# Altium integrated library Renesas Microprocessor SuperH.IntLib: 433 symbols (part 55 of 62)
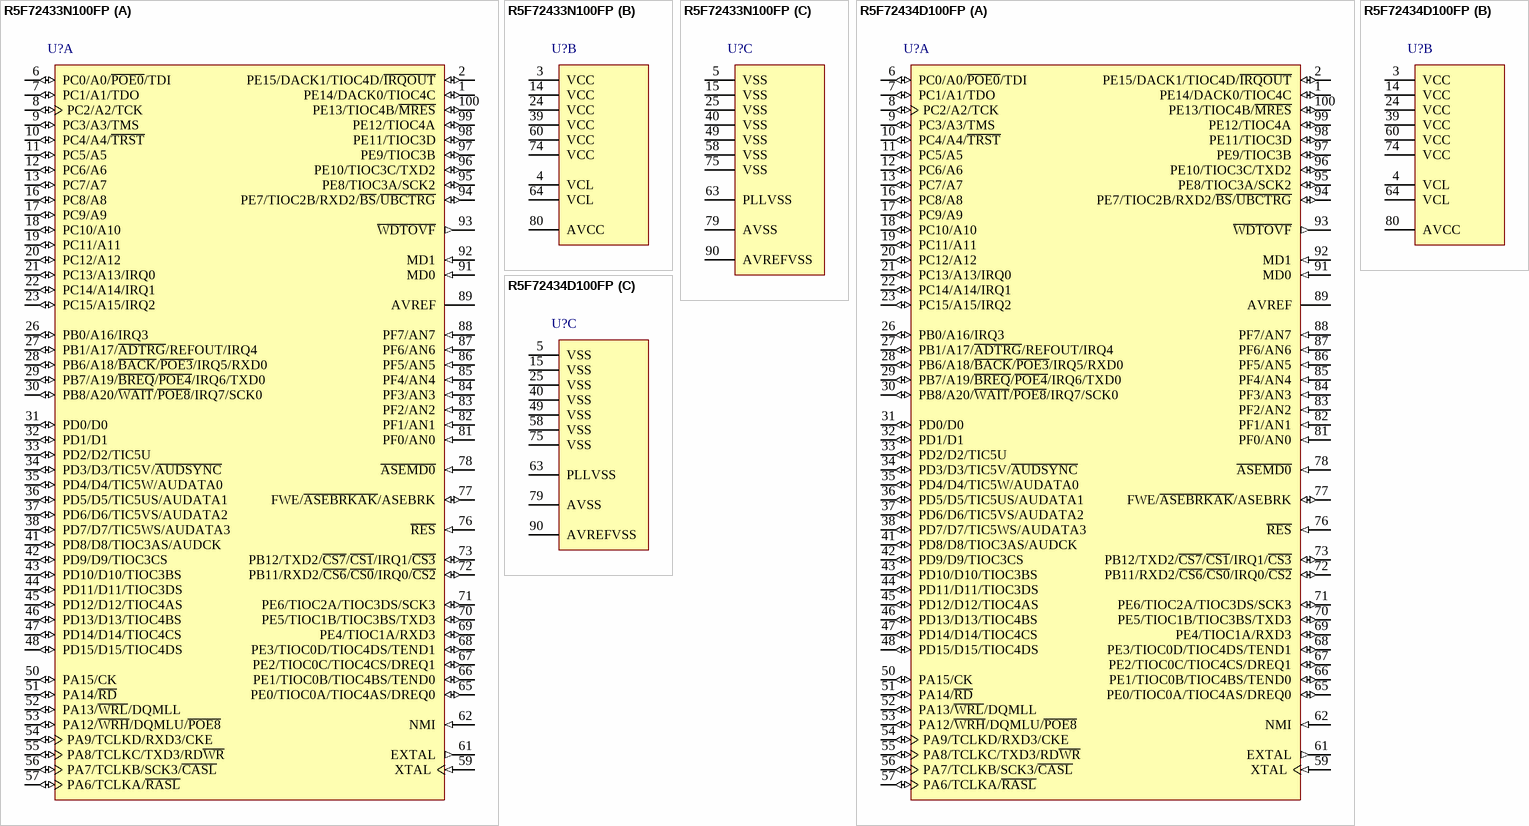
[diagram p313: symbols R5F72433N100FP to R5F72434D100FP]

## R5F72434D100FP
designator U?
32-Bit RISC Microcomputer, SH7243 Series, SH-2A core, 100MHz, 256K ROM, 12K RAM, 100-pin PLQFP, -40 to 85°C; Published: 28-Aug-2009; DatasheetVersion: Rev.1.00, Jun-2008; PackageVersion: Sep-2005; PackageReference: PLQP0100KB-A; Publisher: Altium Limited; PackageDescription: 100-Pin Plastic Low Profile QFP, 14 x 14 x 1.4 mm Body, 0.5 mm Pitch; Code_JEITA: P-LQFP100-14x14-0.50; Code_IPC: SQFP50P1600X1600-100; ComponentLink1Description: Manufacturer Link; ComponentLink1URL: http://www.renesas.com/fmwk.jsp?cnt=sh7243_root.jsp&fp=/products/mpumcu/superh_family/sh7243_series/sh7243_group/; ComponentLink2Description: Datasheet; ComponentLink2URL: http://documentation.renesas.com/eng/products/mpumcu/rej09b0393_sh7280hm.pdf; ComponentLink3Description: Packaging Specification; ComponentLink3URL: http://sg.renesas.com/media/products/common_info/package/pdf/ic/code/plqp0100kb_a.pdf
footprint PLQP0100KB-A_N (Shrink QFP, 100-Leads, Body 14x14mm, Pitch 0.5mm, IPC Medium Density)
footprint PLQP0100KB-A_L (Shrink QFP, 100-Leads, Body 14x14mm, Pitch 0.5mm, IPC High Density)
footprint PLQP0100KB-A_M (Shrink QFP, 100-Leads, Body 14x14mm, Pitch 0.5mm, IPC Low Density)
part A pins: 1 PE14/DACK0/TIOC4C (io), 2 PE15/DACK1/TIOC4D/~{IRQOUT} (io), 6 PC0/A0/~{POE0}/TDI (io), 7 PC1/A1/TDO (io), 8 PC2/A2/TCK (io), 9 PC3/A3/TMS (io), 10 PC4/A4/~{TRST} (io), 11 PC5/A5 (io), 12 PC6/A6 (io), 13 PC7/A7 (io), 16 PC8/A8 (io), 17 PC9/A9 (io), 18 PC10/A10 (io), 19 PC11/A11 (io), 20 PC12/A12 (io), 21 PC13/A13/IRQ0 (io), 22 PC14/A14/IRQ1 (io), 23 PC15/A15/IRQ2 (io), 26 PB0/A16/IRQ3 (io), 27 PB1/A17/~{ADTRG}/REFOUT/IRQ4 (io), 28 PB6/A18/~{BACK}/~{POE3}/IRQ5/RXD0 (io), 29 PB7/A19/~{BREQ}/~{POE4}/IRQ6/TXD0 (io), 30 PB8/A20/~{WAIT}/~{POE8}/IRQ7/SCK0 (io), 31 PD0/D0 (io), 32 PD1/D1 (io), 33 PD2/D2/TIC5U (io), 34 PD3/D3/TIC5V/~{AUDSYNC} (io), 35 PD4/D4/TIC5W/AUDATA0 (io), 36 PD5/D5/TIC5US/AUDATA1 (io), 37 PD6/D6/TIC5VS/AUDATA2 (io), 38 PD7/D7/TIC5WS/AUDATA3 (io), 41 PD8/D8/TIOC3AS/AUDCK (io), 42 PD9/D9/TIOC3CS (io), 43 PD10/D10/TIOC3BS (io), 44 PD11/D11/TIOC3DS (io), 45 PD12/D12/TIOC4AS (io), 46 PD13/D13/TIOC4BS (io), 47 PD14/D14/TIOC4CS (io), 48 PD15/D15/TIOC4DS (io), 50 PA15/CK (io), 51 PA14/~{RD} (io), 52 PA13/~{WRL}/DQMLL (io), 53 PA12/~{WRH}/DQMLU/~{POE8} (io), 54 PA9/TCLKD/RXD3/CKE (io), 55 PA8/TCLKC/TXD3/RD~{WR} (io), 56 PA7/TCLKB/SCK3/~{CASL} (io), 57 PA6/TCLKA/~{RASL} (io), 59 XTAL (in), 61 EXTAL (out), 62 NMI (in), 65 PE0/TIOC0A/TIOC4AS/DREQ0 (io), 66 PE1/TIOC0B/TIOC4BS/TEND0 (io), 67 PE2/TIOC0C/TIOC4CS/DREQ1 (io), 68 PE3/TIOC0D/TIOC4DS/TEND1 (io), 69 PE4/TIOC1A/RXD3 (io), 70 PE5/TIOC1B/TIOC3BS/TXD3 (io), 71 PE6/TIOC2A/TIOC3DS/SCK3 (io), 72 PB11/RXD2/~{CS6}/~{CS0}/IRQ0/~{CS2} (io), 73 PB12/TXD2/~{CS7}/~{CS1}/IRQ1/~{CS3} (io), 76 ~{RES} (in), 77 FWE/~{ASEBRKAK}/ASEBRK (io), 78 ~{ASEMD0} (in), 81 PF0/AN0 (in), 82 PF1/AN1 (in), 83 PF2/AN2 (in), 84 PF3/AN3 (in), 85 PF4/AN4 (in), 86 PF5/AN5 (in), 87 PF6/AN6 (in), 88 PF7/AN7 (in), 89 AVREF (power), 91 MD0 (in), 92 MD1 (in), 93 ~{WDTOVF} (out), 94 PE7/TIOC2B/RXD2/~{BS}/~{UBCTRG} (io), 95 PE8/TIOC3A/SCK2 (io), 96 PE10/TIOC3C/TXD2 (io), 97 PE9/TIOC3B (io), 98 PE11/TIOC3D (io), 99 PE12/TIOC4A (io), 100 PE13/TIOC4B/~{MRES} (io)
part B pins: 3 VCC (power), 4 VCL (power), 14 VCC (power), 24 VCC (power), 39 VCC (power), 60 VCC (power), 64 VCL (power), 74 VCC (power), 80 AVCC (power)
part C pins: 5 VSS (power), 15 VSS (power), 25 VSS (power), 40 VSS (power), 49 VSS (power), 58 VSS (power), 63 PLLVSS (power), 75 VSS (power), 79 AVSS (power), 90 AVREFVSS (power)

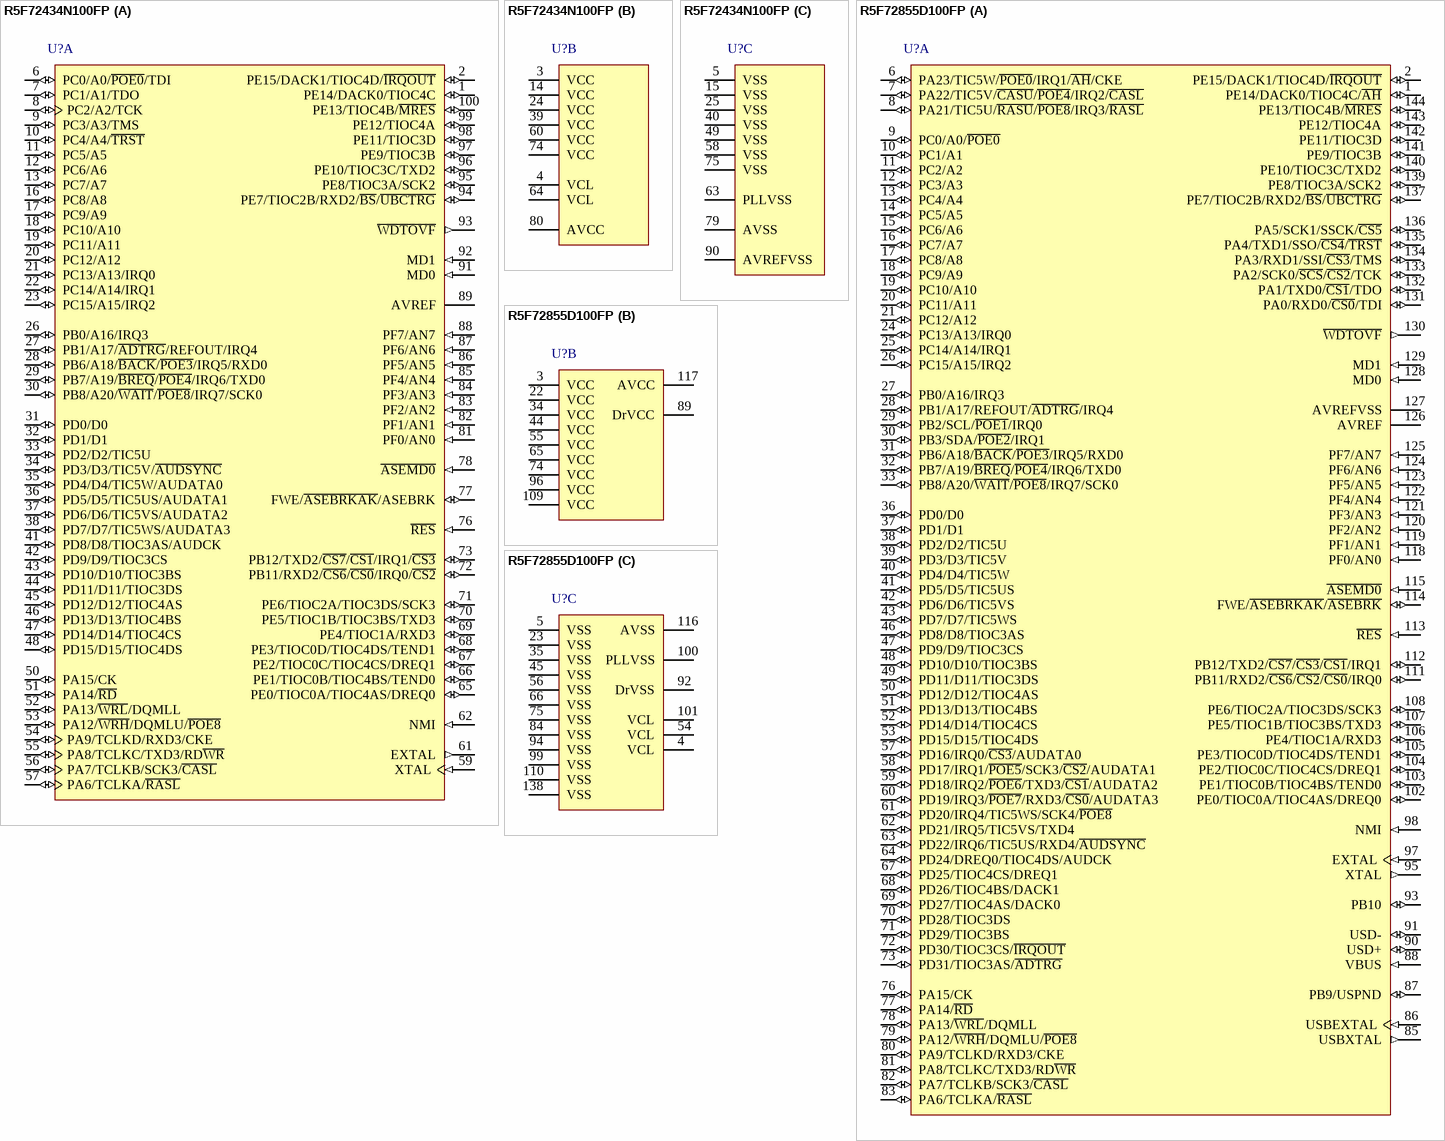
[diagram p184: symbols R5F72434N100FP to R5F72855D100FP]

## R5F72434N100FP
designator U?
32-Bit RISC Microcomputer, SH7243 Series, SH-2A core, 100MHz, 256K ROM, 12K RAM, 100-pin PLQFP, -20 to 85°C; Published: 28-Aug-2009; DatasheetVersion: Rev.1.00, Jun-2008; PackageVersion: Sep-2005; PackageReference: PLQP0100KB-A; Publisher: Altium Limited; PackageDescription: 100-Pin Plastic Low Profile QFP, 14 x 14 x 1.4 mm Body, 0.5 mm Pitch; Code_JEITA: P-LQFP100-14x14-0.50; Code_IPC: SQFP50P1600X1600-100; ComponentLink1Description: Manufacturer Link; ComponentLink1URL: http://www.renesas.com/fmwk.jsp?cnt=sh7243_root.jsp&fp=/products/mpumcu/superh_family/sh7243_series/sh7243_group/; ComponentLink2Description: Datasheet; ComponentLink2URL: http://documentation.renesas.com/eng/products/mpumcu/rej09b0393_sh7280hm.pdf; ComponentLink3Description: Packaging Specification; ComponentLink3URL: http://sg.renesas.com/media/products/common_info/package/pdf/ic/code/plqp0100kb_a.pdf
footprint PLQP0100KB-A_N (Shrink QFP, 100-Leads, Body 14x14mm, Pitch 0.5mm, IPC Medium Density)
footprint PLQP0100KB-A_L (Shrink QFP, 100-Leads, Body 14x14mm, Pitch 0.5mm, IPC High Density)
footprint PLQP0100KB-A_M (Shrink QFP, 100-Leads, Body 14x14mm, Pitch 0.5mm, IPC Low Density)
part A pins: 1 PE14/DACK0/TIOC4C (io), 2 PE15/DACK1/TIOC4D/~{IRQOUT} (io), 6 PC0/A0/~{POE0}/TDI (io), 7 PC1/A1/TDO (io), 8 PC2/A2/TCK (io), 9 PC3/A3/TMS (io), 10 PC4/A4/~{TRST} (io), 11 PC5/A5 (io), 12 PC6/A6 (io), 13 PC7/A7 (io), 16 PC8/A8 (io), 17 PC9/A9 (io), 18 PC10/A10 (io), 19 PC11/A11 (io), 20 PC12/A12 (io), 21 PC13/A13/IRQ0 (io), 22 PC14/A14/IRQ1 (io), 23 PC15/A15/IRQ2 (io), 26 PB0/A16/IRQ3 (io), 27 PB1/A17/~{ADTRG}/REFOUT/IRQ4 (io), 28 PB6/A18/~{BACK}/~{POE3}/IRQ5/RXD0 (io), 29 PB7/A19/~{BREQ}/~{POE4}/IRQ6/TXD0 (io), 30 PB8/A20/~{WAIT}/~{POE8}/IRQ7/SCK0 (io), 31 PD0/D0 (io), 32 PD1/D1 (io), 33 PD2/D2/TIC5U (io), 34 PD3/D3/TIC5V/~{AUDSYNC} (io), 35 PD4/D4/TIC5W/AUDATA0 (io), 36 PD5/D5/TIC5US/AUDATA1 (io), 37 PD6/D6/TIC5VS/AUDATA2 (io), 38 PD7/D7/TIC5WS/AUDATA3 (io), 41 PD8/D8/TIOC3AS/AUDCK (io), 42 PD9/D9/TIOC3CS (io), 43 PD10/D10/TIOC3BS (io), 44 PD11/D11/TIOC3DS (io), 45 PD12/D12/TIOC4AS (io), 46 PD13/D13/TIOC4BS (io), 47 PD14/D14/TIOC4CS (io), 48 PD15/D15/TIOC4DS (io), 50 PA15/CK (io), 51 PA14/~{RD} (io), 52 PA13/~{WRL}/DQMLL (io), 53 PA12/~{WRH}/DQMLU/~{POE8} (io), 54 PA9/TCLKD/RXD3/CKE (io), 55 PA8/TCLKC/TXD3/RD~{WR} (io), 56 PA7/TCLKB/SCK3/~{CASL} (io), 57 PA6/TCLKA/~{RASL} (io), 59 XTAL (in), 61 EXTAL (out), 62 NMI (in), 65 PE0/TIOC0A/TIOC4AS/DREQ0 (io), 66 PE1/TIOC0B/TIOC4BS/TEND0 (io), 67 PE2/TIOC0C/TIOC4CS/DREQ1 (io), 68 PE3/TIOC0D/TIOC4DS/TEND1 (io), 69 PE4/TIOC1A/RXD3 (io), 70 PE5/TIOC1B/TIOC3BS/TXD3 (io), 71 PE6/TIOC2A/TIOC3DS/SCK3 (io), 72 PB11/RXD2/~{CS6}/~{CS0}/IRQ0/~{CS2} (io), 73 PB12/TXD2/~{CS7}/~{CS1}/IRQ1/~{CS3} (io), 76 ~{RES} (in), 77 FWE/~{ASEBRKAK}/ASEBRK (io), 78 ~{ASEMD0} (in), 81 PF0/AN0 (in), 82 PF1/AN1 (in), 83 PF2/AN2 (in), 84 PF3/AN3 (in), 85 PF4/AN4 (in), 86 PF5/AN5 (in), 87 PF6/AN6 (in), 88 PF7/AN7 (in), 89 AVREF (power), 91 MD0 (in), 92 MD1 (in), 93 ~{WDTOVF} (out), 94 PE7/TIOC2B/RXD2/~{BS}/~{UBCTRG} (io), 95 PE8/TIOC3A/SCK2 (io), 96 PE10/TIOC3C/TXD2 (io), 97 PE9/TIOC3B (io), 98 PE11/TIOC3D (io), 99 PE12/TIOC4A (io), 100 PE13/TIOC4B/~{MRES} (io)
part B pins: 3 VCC (power), 4 VCL (power), 14 VCC (power), 24 VCC (power), 39 VCC (power), 60 VCC (power), 64 VCL (power), 74 VCC (power), 80 AVCC (power)
part C pins: 5 VSS (power), 15 VSS (power), 25 VSS (power), 40 VSS (power), 49 VSS (power), 58 VSS (power), 63 PLLVSS (power), 75 VSS (power), 79 AVSS (power), 90 AVREFVSS (power)

## R5F72855D100FP
designator U?
32-Bit RISC Microcomputer, SH7280 Series, SH-2A core, 100MHz, 512K ROM, 24K RAM, 144-pin PLQFP, -40 to 85°C; Published: 28-Aug-2009; DatasheetVersion: Rev.1.00, Jun-2008; PackageVersion: Sep-2005; PackageReference: PLQP0144KA-A; Publisher: Altium Limited; PackageDescription: 144-Pin Plastic Low Profile QFP, 20 x 20 x 1.4 mm Body, 0.5 mm Pitch; Code_JEITA: P-LQFP144-20x20-0.50; Code_IPC: SQFP50P2200X2200-144; ComponentLink1Description: Manufacturer Link; ComponentLink1URL: http://www.renesas.com/fmwk.jsp?cnt=sh7285_root.jsp&fp=/products/mpumcu/superh_family/sh7280_series/sh7285_group/; ComponentLink2Description: Datasheet; ComponentLink2URL: http://documentation.renesas.com/eng/products/mpumcu/rej09b0393_sh7280hm.pdf; ComponentLink3Description: Packaging Specification; ComponentLink3URL: http://sg.renesas.com/media/products/common_info/package/pdf/ic/code/plqp0144ka_a.pdf
footprint PLQP0144KA-A_N (Shrink QFP, 144-Leads, Body 20x20mm, Pitch 0.5mm, IPC Medium Density)
footprint PLQP0144KA-A_L (Shrink QFP, 144-Leads, Body 20x20mm, Pitch 0.5mm, IPC High Density)
footprint PLQP0144KA-A_M (Shrink QFP, 144-Leads, Body 20x20mm, Pitch 0.5mm, IPC Low Density)
part A pins: 1 PE14/DACK0/TIOC4C/~{AH} (io), 2 PE15/DACK1/TIOC4D/~{IRQOUT} (io), 6 PA23/TIC5W/~{POE0}/IRQ1/~{AH}/CKE (io), 7 PA22/TIC5V/~{CASU}/~{POE4}/IRQ2/~{CASL} (io), 8 PA21/TIC5U/~{RASU}/~{POE8}/IRQ3/~{RASL} (io), 9 PC0/A0/~{POE0} (io), 10 PC1/A1 (io), 11 PC2/A2 (io), 12 PC3/A3 (io), 13 PC4/A4 (io), 14 PC5/A5 (io), 15 PC6/A6 (io), 16 PC7/A7 (io), 17 PC8/A8 (io), 18 PC9/A9 (io), 19 PC10/A10 (io), 20 PC11/A11 (io), 21 PC12/A12 (io), 24 PC13/A13/IRQ0 (io), 25 PC14/A14/IRQ1 (io), 26 PC15/A15/IRQ2 (io), 27 PB0/A16/IRQ3 (io), 28 PB1/A17/REFOUT/~{ADTRG}/IRQ4 (io), 29 PB2/SCL/~{POE1}/IRQ0 (io), 30 PB3/SDA/~{POE2}/IRQ1 (io), 31 PB6/A18/~{BACK}/~{POE3}/IRQ5/RXD0 (io), 32 PB7/A19/~{BREQ}/~{POE4}/IRQ6/TXD0 (io), 33 PB8/A20/~{WAIT}/~{POE8}/IRQ7/SCK0 (io), 36 PD0/D0 (io), 37 PD1/D1 (io), 38 PD2/D2/TIC5U (io), 39 PD3/D3/TIC5V (io), 40 PD4/D4/TIC5W (io), 41 PD5/D5/TIC5US (io), 42 PD6/D6/TIC5VS (io), 43 PD7/D7/TIC5WS (io), 46 PD8/D8/TIOC3AS (io), 47 PD9/D9/TIOC3CS (io), 48 PD10/D10/TIOC3BS (io), 49 PD11/D11/TIOC3DS (io), 50 PD12/D12/TIOC4AS (io), 51 PD13/D13/TIOC4BS (io), 52 PD14/D14/TIOC4CS (io), 53 PD15/D15/TIOC4DS (io), 57 PD16/IRQ0/~{CS3}/AUDATA0 (io), 58 PD17/IRQ1/~{POE5}/SCK3/~{CS2}/AUDATA1 (io), 59 PD18/IRQ2/~{POE6}/TXD3/~{CS1}/AUDATA2 (io), 60 PD19/IRQ3/~{POE7}/RXD3/~{CS0}/AUDATA3 (io), 61 PD20/IRQ4/TIC5WS/SCK4/~{POE8} (io), 62 PD21/IRQ5/TIC5VS/TXD4 (io), 63 PD22/IRQ6/TIC5US/RXD4/~{AUDSYNC} (io), 64 PD24/DREQ0/TIOC4DS/AUDCK (io), 67 PD25/TIOC4CS/DREQ1 (io), 68 PD26/TIOC4BS/DACK1 (io), 69 PD27/TIOC4AS/DACK0 (io), 70 PD28/TIOC3DS (io), 71 PD29/TIOC3BS (io), 72 PD30/TIOC3CS/~{IRQOUT} (io), 73 PD31/TIOC3AS/~{ADTRG} (io), 76 PA15/CK (io), 77 PA14/~{RD} (io), 78 PA13/~{WRL}/DQMLL (io), 79 PA12/~{WRH}/DQMLU/~{POE8} (io), 80 PA9/TCLKD/RXD3/CKE (io), 81 PA8/TCLKC/TXD3/RD~{WR} (io), 82 PA7/TCLKB/SCK3/~{CASL} (io), 83 PA6/TCLKA/~{RASL} (io), 85 USBXTAL (out), 86 USBEXTAL (in), 87 PB9/USPND (io), 88 VBUS (in), 90 USD+ (io), 91 USD- (io), 93 PB10 (io), 95 XTAL (out), 97 EXTAL (in), 98 NMI (in), 102 PE0/TIOC0A/TIOC4AS/DREQ0 (io), 103 PE1/TIOC0B/TIOC4BS/TEND0 (io), 104 PE2/TIOC0C/TIOC4CS/DREQ1 (io), 105 PE3/TIOC0D/TIOC4DS/TEND1 (io), 106 PE4/TIOC1A/RXD3 (io), 107 PE5/TIOC1B/TIOC3BS/TXD3 (io), 108 PE6/TIOC2A/TIOC3DS/SCK3 (io), 111 PB11/RXD2/~{CS6}/~{CS2}/~{CS0}/IRQ0 (io), 112 PB12/TXD2/~{CS7}/~{CS3}/~{CS1}/IRQ1 (io), 113 ~{RES} (in), 114 FWE/~{ASEBRKAK}/~{ASEBRK} (io), 115 ~{ASEMD0} (in), 118 PF0/AN0 (in), 119 PF1/AN1 (in), 120 PF2/AN2 (in), 121 PF3/AN3 (in), 122 PF4/AN4 (in), 123 PF5/AN5 (in), 124 PF6/AN6 (in), 125 PF7/AN7 (in), 126 AVREF, 127 AVREFVSS, 128 MD0 (in), 129 MD1 (in), 130 ~{WDTOVF} (out), 131 PA0/RXD0/~{CS0}/TDI (io), 132 PA1/TXD0/~{CS1}/TDO (io), 133 PA2/SCK0/~{SCS}/~{CS2}/TCK (io), 134 PA3/RXD1/SSI/~{CS3}/TMS (io), 135 PA4/TXD1/SSO/~{CS4}/~{TRST} (io), 136 PA5/SCK1/SSCK/~{CS5} (io), 137 PE7/TIOC2B/RXD2/~{BS}/~{UBCTRG} (io), 139 PE8/TIOC3A/SCK2 (io), 140 PE10/TIOC3C/TXD2 (io), 141 PE9/TIOC3B (io), 142 PE11/TIOC3D (io), 143 PE12/TIOC4A (io), 144 PE13/TIOC4B/~{MRES} (io)
part B pins: 3 VCC, 22 VCC, 34 VCC, 44 VCC, 55 VCC, 65 VCC, 74 VCC, 89 DrVCC, 96 VCC, 109 VCC, 117 AVCC
part C pins: 4 VCL, 5 VSS, 23 VSS, 35 VSS, 45 VSS, 54 VCL, 56 VSS, 66 VSS, 75 VSS, 84 VSS, 92 DrVSS, 94 VSS, 99 VSS, 100 PLLVSS, 101 VCL, 110 VSS, 116 AVSS, 138 VSS

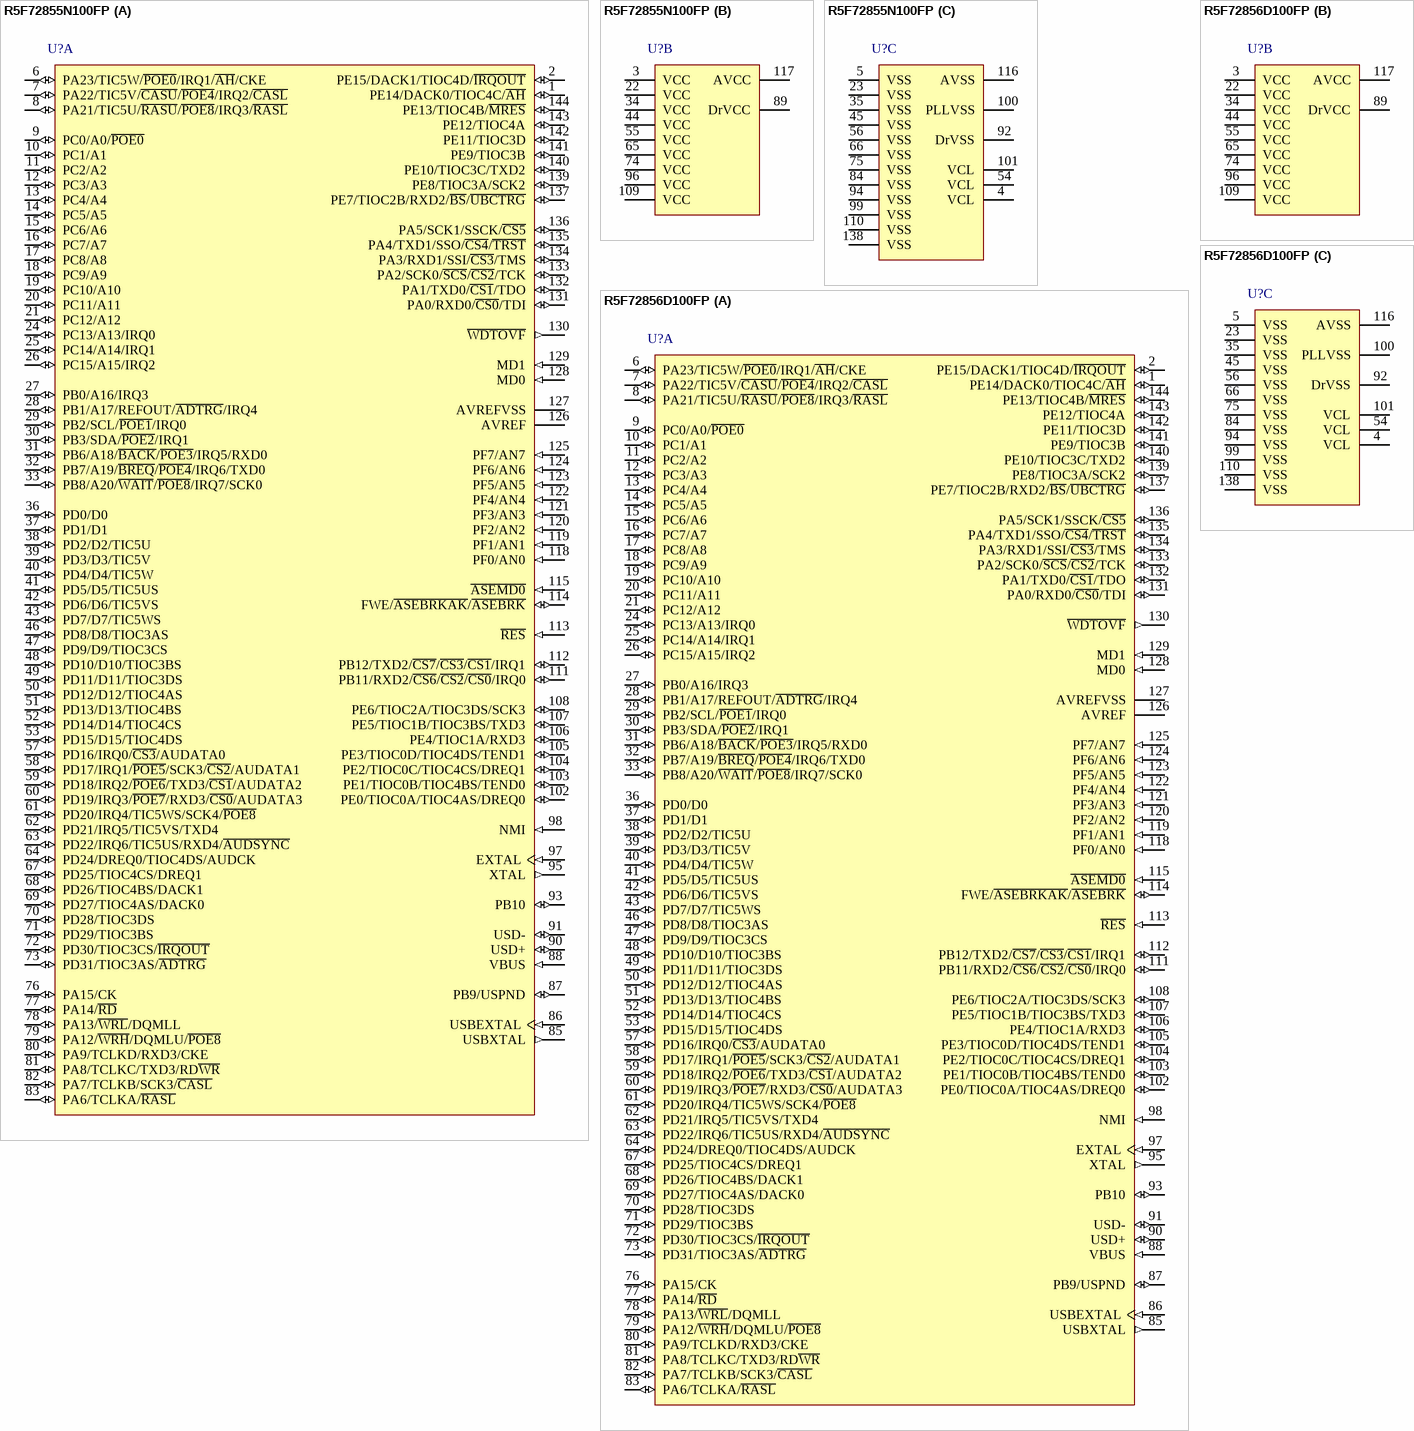
[diagram p185: symbols R5F72855N100FP to R5F72856D100FP]

## R5F72855N100FP
designator U?
32-Bit RISC Microcomputer, SH7280 Series, SH-2A core, 100MHz, 512K ROM, 24K RAM, 144-pin PLQFP, -20 to 85°C; Published: 28-Aug-2009; DatasheetVersion: Rev.1.00, Jun-2008; PackageVersion: Sep-2005; PackageReference: PLQP0144KA-A; Publisher: Altium Limited; PackageDescription: 144-Pin Plastic Low Profile QFP, 20 x 20 x 1.4 mm Body, 0.5 mm Pitch; Code_JEITA: P-LQFP144-20x20-0.50; Code_IPC: SQFP50P2200X2200-144; ComponentLink1Description: Manufacturer Link; ComponentLink1URL: http://www.renesas.com/fmwk.jsp?cnt=sh7285_root.jsp&fp=/products/mpumcu/superh_family/sh7280_series/sh7285_group/; ComponentLink2Description: Datasheet; ComponentLink2URL: http://documentation.renesas.com/eng/products/mpumcu/rej09b0393_sh7280hm.pdf; ComponentLink3Description: Packaging Specification; ComponentLink3URL: http://sg.renesas.com/media/products/common_info/package/pdf/ic/code/plqp0144ka_a.pdf
footprint PLQP0144KA-A_N (Shrink QFP, 144-Leads, Body 20x20mm, Pitch 0.5mm, IPC Medium Density)
footprint PLQP0144KA-A_L (Shrink QFP, 144-Leads, Body 20x20mm, Pitch 0.5mm, IPC High Density)
footprint PLQP0144KA-A_M (Shrink QFP, 144-Leads, Body 20x20mm, Pitch 0.5mm, IPC Low Density)
part A pins: 1 PE14/DACK0/TIOC4C/~{AH} (io), 2 PE15/DACK1/TIOC4D/~{IRQOUT} (io), 6 PA23/TIC5W/~{POE0}/IRQ1/~{AH}/CKE (io), 7 PA22/TIC5V/~{CASU}/~{POE4}/IRQ2/~{CASL} (io), 8 PA21/TIC5U/~{RASU}/~{POE8}/IRQ3/~{RASL} (io), 9 PC0/A0/~{POE0} (io), 10 PC1/A1 (io), 11 PC2/A2 (io), 12 PC3/A3 (io), 13 PC4/A4 (io), 14 PC5/A5 (io), 15 PC6/A6 (io), 16 PC7/A7 (io), 17 PC8/A8 (io), 18 PC9/A9 (io), 19 PC10/A10 (io), 20 PC11/A11 (io), 21 PC12/A12 (io), 24 PC13/A13/IRQ0 (io), 25 PC14/A14/IRQ1 (io), 26 PC15/A15/IRQ2 (io), 27 PB0/A16/IRQ3 (io), 28 PB1/A17/REFOUT/~{ADTRG}/IRQ4 (io), 29 PB2/SCL/~{POE1}/IRQ0 (io), 30 PB3/SDA/~{POE2}/IRQ1 (io), 31 PB6/A18/~{BACK}/~{POE3}/IRQ5/RXD0 (io), 32 PB7/A19/~{BREQ}/~{POE4}/IRQ6/TXD0 (io), 33 PB8/A20/~{WAIT}/~{POE8}/IRQ7/SCK0 (io), 36 PD0/D0 (io), 37 PD1/D1 (io), 38 PD2/D2/TIC5U (io), 39 PD3/D3/TIC5V (io), 40 PD4/D4/TIC5W (io), 41 PD5/D5/TIC5US (io), 42 PD6/D6/TIC5VS (io), 43 PD7/D7/TIC5WS (io), 46 PD8/D8/TIOC3AS (io), 47 PD9/D9/TIOC3CS (io), 48 PD10/D10/TIOC3BS (io), 49 PD11/D11/TIOC3DS (io), 50 PD12/D12/TIOC4AS (io), 51 PD13/D13/TIOC4BS (io), 52 PD14/D14/TIOC4CS (io), 53 PD15/D15/TIOC4DS (io), 57 PD16/IRQ0/~{CS3}/AUDATA0 (io), 58 PD17/IRQ1/~{POE5}/SCK3/~{CS2}/AUDATA1 (io), 59 PD18/IRQ2/~{POE6}/TXD3/~{CS1}/AUDATA2 (io), 60 PD19/IRQ3/~{POE7}/RXD3/~{CS0}/AUDATA3 (io), 61 PD20/IRQ4/TIC5WS/SCK4/~{POE8} (io), 62 PD21/IRQ5/TIC5VS/TXD4 (io), 63 PD22/IRQ6/TIC5US/RXD4/~{AUDSYNC} (io), 64 PD24/DREQ0/TIOC4DS/AUDCK (io), 67 PD25/TIOC4CS/DREQ1 (io), 68 PD26/TIOC4BS/DACK1 (io), 69 PD27/TIOC4AS/DACK0 (io), 70 PD28/TIOC3DS (io), 71 PD29/TIOC3BS (io), 72 PD30/TIOC3CS/~{IRQOUT} (io), 73 PD31/TIOC3AS/~{ADTRG} (io), 76 PA15/CK (io), 77 PA14/~{RD} (io), 78 PA13/~{WRL}/DQMLL (io), 79 PA12/~{WRH}/DQMLU/~{POE8} (io), 80 PA9/TCLKD/RXD3/CKE (io), 81 PA8/TCLKC/TXD3/RD~{WR} (io), 82 PA7/TCLKB/SCK3/~{CASL} (io), 83 PA6/TCLKA/~{RASL} (io), 85 USBXTAL (out), 86 USBEXTAL (in), 87 PB9/USPND (io), 88 VBUS (in), 90 USD+ (io), 91 USD- (io), 93 PB10 (io), 95 XTAL (out), 97 EXTAL (in), 98 NMI (in), 102 PE0/TIOC0A/TIOC4AS/DREQ0 (io), 103 PE1/TIOC0B/TIOC4BS/TEND0 (io), 104 PE2/TIOC0C/TIOC4CS/DREQ1 (io), 105 PE3/TIOC0D/TIOC4DS/TEND1 (io), 106 PE4/TIOC1A/RXD3 (io), 107 PE5/TIOC1B/TIOC3BS/TXD3 (io), 108 PE6/TIOC2A/TIOC3DS/SCK3 (io), 111 PB11/RXD2/~{CS6}/~{CS2}/~{CS0}/IRQ0 (io), 112 PB12/TXD2/~{CS7}/~{CS3}/~{CS1}/IRQ1 (io), 113 ~{RES} (in), 114 FWE/~{ASEBRKAK}/~{ASEBRK} (io), 115 ~{ASEMD0} (in), 118 PF0/AN0 (in), 119 PF1/AN1 (in), 120 PF2/AN2 (in), 121 PF3/AN3 (in), 122 PF4/AN4 (in), 123 PF5/AN5 (in), 124 PF6/AN6 (in), 125 PF7/AN7 (in), 126 AVREF, 127 AVREFVSS, 128 MD0 (in), 129 MD1 (in), 130 ~{WDTOVF} (out), 131 PA0/RXD0/~{CS0}/TDI (io), 132 PA1/TXD0/~{CS1}/TDO (io), 133 PA2/SCK0/~{SCS}/~{CS2}/TCK (io), 134 PA3/RXD1/SSI/~{CS3}/TMS (io), 135 PA4/TXD1/SSO/~{CS4}/~{TRST} (io), 136 PA5/SCK1/SSCK/~{CS5} (io), 137 PE7/TIOC2B/RXD2/~{BS}/~{UBCTRG} (io), 139 PE8/TIOC3A/SCK2 (io), 140 PE10/TIOC3C/TXD2 (io), 141 PE9/TIOC3B (io), 142 PE11/TIOC3D (io), 143 PE12/TIOC4A (io), 144 PE13/TIOC4B/~{MRES} (io)
part B pins: 3 VCC, 22 VCC, 34 VCC, 44 VCC, 55 VCC, 65 VCC, 74 VCC, 89 DrVCC, 96 VCC, 109 VCC, 117 AVCC
part C pins: 4 VCL, 5 VSS, 23 VSS, 35 VSS, 45 VSS, 54 VCL, 56 VSS, 66 VSS, 75 VSS, 84 VSS, 92 DrVSS, 94 VSS, 99 VSS, 100 PLLVSS, 101 VCL, 110 VSS, 116 AVSS, 138 VSS

## R5F72856D100FP
designator U?
32-Bit RISC Microcomputer, SH7280 Series, SH-2A core, 100MHz, 768K ROM, 32K RAM, 144-pin PLQFP, -40 to 85°C; Published: 28-Aug-2009; DatasheetVersion: Rev.1.00, Jun-2008; PackageVersion: Sep-2005; PackageReference: PLQP0144KA-A; Publisher: Altium Limited; PackageDescription: 144-Pin Plastic Low Profile QFP, 20 x 20 x 1.4 mm Body, 0.5 mm Pitch; Code_JEITA: P-LQFP144-20x20-0.50; Code_IPC: SQFP50P2200X2200-144; ComponentLink1Description: Manufacturer Link; ComponentLink1URL: http://www.renesas.com/fmwk.jsp?cnt=sh7285_root.jsp&fp=/products/mpumcu/superh_family/sh7280_series/sh7285_group/; ComponentLink2Description: Datasheet; ComponentLink2URL: http://documentation.renesas.com/eng/products/mpumcu/rej09b0393_sh7280hm.pdf; ComponentLink3Description: Packaging Specification; ComponentLink3URL: http://sg.renesas.com/media/products/common_info/package/pdf/ic/code/plqp0144ka_a.pdf
footprint PLQP0144KA-A_N (Shrink QFP, 144-Leads, Body 20x20mm, Pitch 0.5mm, IPC Medium Density)
footprint PLQP0144KA-A_L (Shrink QFP, 144-Leads, Body 20x20mm, Pitch 0.5mm, IPC High Density)
footprint PLQP0144KA-A_M (Shrink QFP, 144-Leads, Body 20x20mm, Pitch 0.5mm, IPC Low Density)
part A pins: 1 PE14/DACK0/TIOC4C/~{AH} (io), 2 PE15/DACK1/TIOC4D/~{IRQOUT} (io), 6 PA23/TIC5W/~{POE0}/IRQ1/~{AH}/CKE (io), 7 PA22/TIC5V/~{CASU}/~{POE4}/IRQ2/~{CASL} (io), 8 PA21/TIC5U/~{RASU}/~{POE8}/IRQ3/~{RASL} (io), 9 PC0/A0/~{POE0} (io), 10 PC1/A1 (io), 11 PC2/A2 (io), 12 PC3/A3 (io), 13 PC4/A4 (io), 14 PC5/A5 (io), 15 PC6/A6 (io), 16 PC7/A7 (io), 17 PC8/A8 (io), 18 PC9/A9 (io), 19 PC10/A10 (io), 20 PC11/A11 (io), 21 PC12/A12 (io), 24 PC13/A13/IRQ0 (io), 25 PC14/A14/IRQ1 (io), 26 PC15/A15/IRQ2 (io), 27 PB0/A16/IRQ3 (io), 28 PB1/A17/REFOUT/~{ADTRG}/IRQ4 (io), 29 PB2/SCL/~{POE1}/IRQ0 (io), 30 PB3/SDA/~{POE2}/IRQ1 (io), 31 PB6/A18/~{BACK}/~{POE3}/IRQ5/RXD0 (io), 32 PB7/A19/~{BREQ}/~{POE4}/IRQ6/TXD0 (io), 33 PB8/A20/~{WAIT}/~{POE8}/IRQ7/SCK0 (io), 36 PD0/D0 (io), 37 PD1/D1 (io), 38 PD2/D2/TIC5U (io), 39 PD3/D3/TIC5V (io), 40 PD4/D4/TIC5W (io), 41 PD5/D5/TIC5US (io), 42 PD6/D6/TIC5VS (io), 43 PD7/D7/TIC5WS (io), 46 PD8/D8/TIOC3AS (io), 47 PD9/D9/TIOC3CS (io), 48 PD10/D10/TIOC3BS (io), 49 PD11/D11/TIOC3DS (io), 50 PD12/D12/TIOC4AS (io), 51 PD13/D13/TIOC4BS (io), 52 PD14/D14/TIOC4CS (io), 53 PD15/D15/TIOC4DS (io), 57 PD16/IRQ0/~{CS3}/AUDATA0 (io), 58 PD17/IRQ1/~{POE5}/SCK3/~{CS2}/AUDATA1 (io), 59 PD18/IRQ2/~{POE6}/TXD3/~{CS1}/AUDATA2 (io), 60 PD19/IRQ3/~{POE7}/RXD3/~{CS0}/AUDATA3 (io), 61 PD20/IRQ4/TIC5WS/SCK4/~{POE8} (io), 62 PD21/IRQ5/TIC5VS/TXD4 (io), 63 PD22/IRQ6/TIC5US/RXD4/~{AUDSYNC} (io), 64 PD24/DREQ0/TIOC4DS/AUDCK (io), 67 PD25/TIOC4CS/DREQ1 (io), 68 PD26/TIOC4BS/DACK1 (io), 69 PD27/TIOC4AS/DACK0 (io), 70 PD28/TIOC3DS (io), 71 PD29/TIOC3BS (io), 72 PD30/TIOC3CS/~{IRQOUT} (io), 73 PD31/TIOC3AS/~{ADTRG} (io), 76 PA15/CK (io), 77 PA14/~{RD} (io), 78 PA13/~{WRL}/DQMLL (io), 79 PA12/~{WRH}/DQMLU/~{POE8} (io), 80 PA9/TCLKD/RXD3/CKE (io), 81 PA8/TCLKC/TXD3/RD~{WR} (io), 82 PA7/TCLKB/SCK3/~{CASL} (io), 83 PA6/TCLKA/~{RASL} (io), 85 USBXTAL (out), 86 USBEXTAL (in), 87 PB9/USPND (io), 88 VBUS (in), 90 USD+ (io), 91 USD- (io), 93 PB10 (io), 95 XTAL (out), 97 EXTAL (in), 98 NMI (in), 102 PE0/TIOC0A/TIOC4AS/DREQ0 (io), 103 PE1/TIOC0B/TIOC4BS/TEND0 (io), 104 PE2/TIOC0C/TIOC4CS/DREQ1 (io), 105 PE3/TIOC0D/TIOC4DS/TEND1 (io), 106 PE4/TIOC1A/RXD3 (io), 107 PE5/TIOC1B/TIOC3BS/TXD3 (io), 108 PE6/TIOC2A/TIOC3DS/SCK3 (io), 111 PB11/RXD2/~{CS6}/~{CS2}/~{CS0}/IRQ0 (io), 112 PB12/TXD2/~{CS7}/~{CS3}/~{CS1}/IRQ1 (io), 113 ~{RES} (in), 114 FWE/~{ASEBRKAK}/~{ASEBRK} (io), 115 ~{ASEMD0} (in), 118 PF0/AN0 (in), 119 PF1/AN1 (in), 120 PF2/AN2 (in), 121 PF3/AN3 (in), 122 PF4/AN4 (in), 123 PF5/AN5 (in), 124 PF6/AN6 (in), 125 PF7/AN7 (in), 126 AVREF, 127 AVREFVSS, 128 MD0 (in), 129 MD1 (in), 130 ~{WDTOVF} (out), 131 PA0/RXD0/~{CS0}/TDI (io), 132 PA1/TXD0/~{CS1}/TDO (io), 133 PA2/SCK0/~{SCS}/~{CS2}/TCK (io), 134 PA3/RXD1/SSI/~{CS3}/TMS (io), 135 PA4/TXD1/SSO/~{CS4}/~{TRST} (io), 136 PA5/SCK1/SSCK/~{CS5} (io), 137 PE7/TIOC2B/RXD2/~{BS}/~{UBCTRG} (io), 139 PE8/TIOC3A/SCK2 (io), 140 PE10/TIOC3C/TXD2 (io), 141 PE9/TIOC3B (io), 142 PE11/TIOC3D (io), 143 PE12/TIOC4A (io), 144 PE13/TIOC4B/~{MRES} (io)
part B pins: 3 VCC, 22 VCC, 34 VCC, 44 VCC, 55 VCC, 65 VCC, 74 VCC, 89 DrVCC, 96 VCC, 109 VCC, 117 AVCC
part C pins: 4 VCL, 5 VSS, 23 VSS, 35 VSS, 45 VSS, 54 VCL, 56 VSS, 66 VSS, 75 VSS, 84 VSS, 92 DrVSS, 94 VSS, 99 VSS, 100 PLLVSS, 101 VCL, 110 VSS, 116 AVSS, 138 VSS

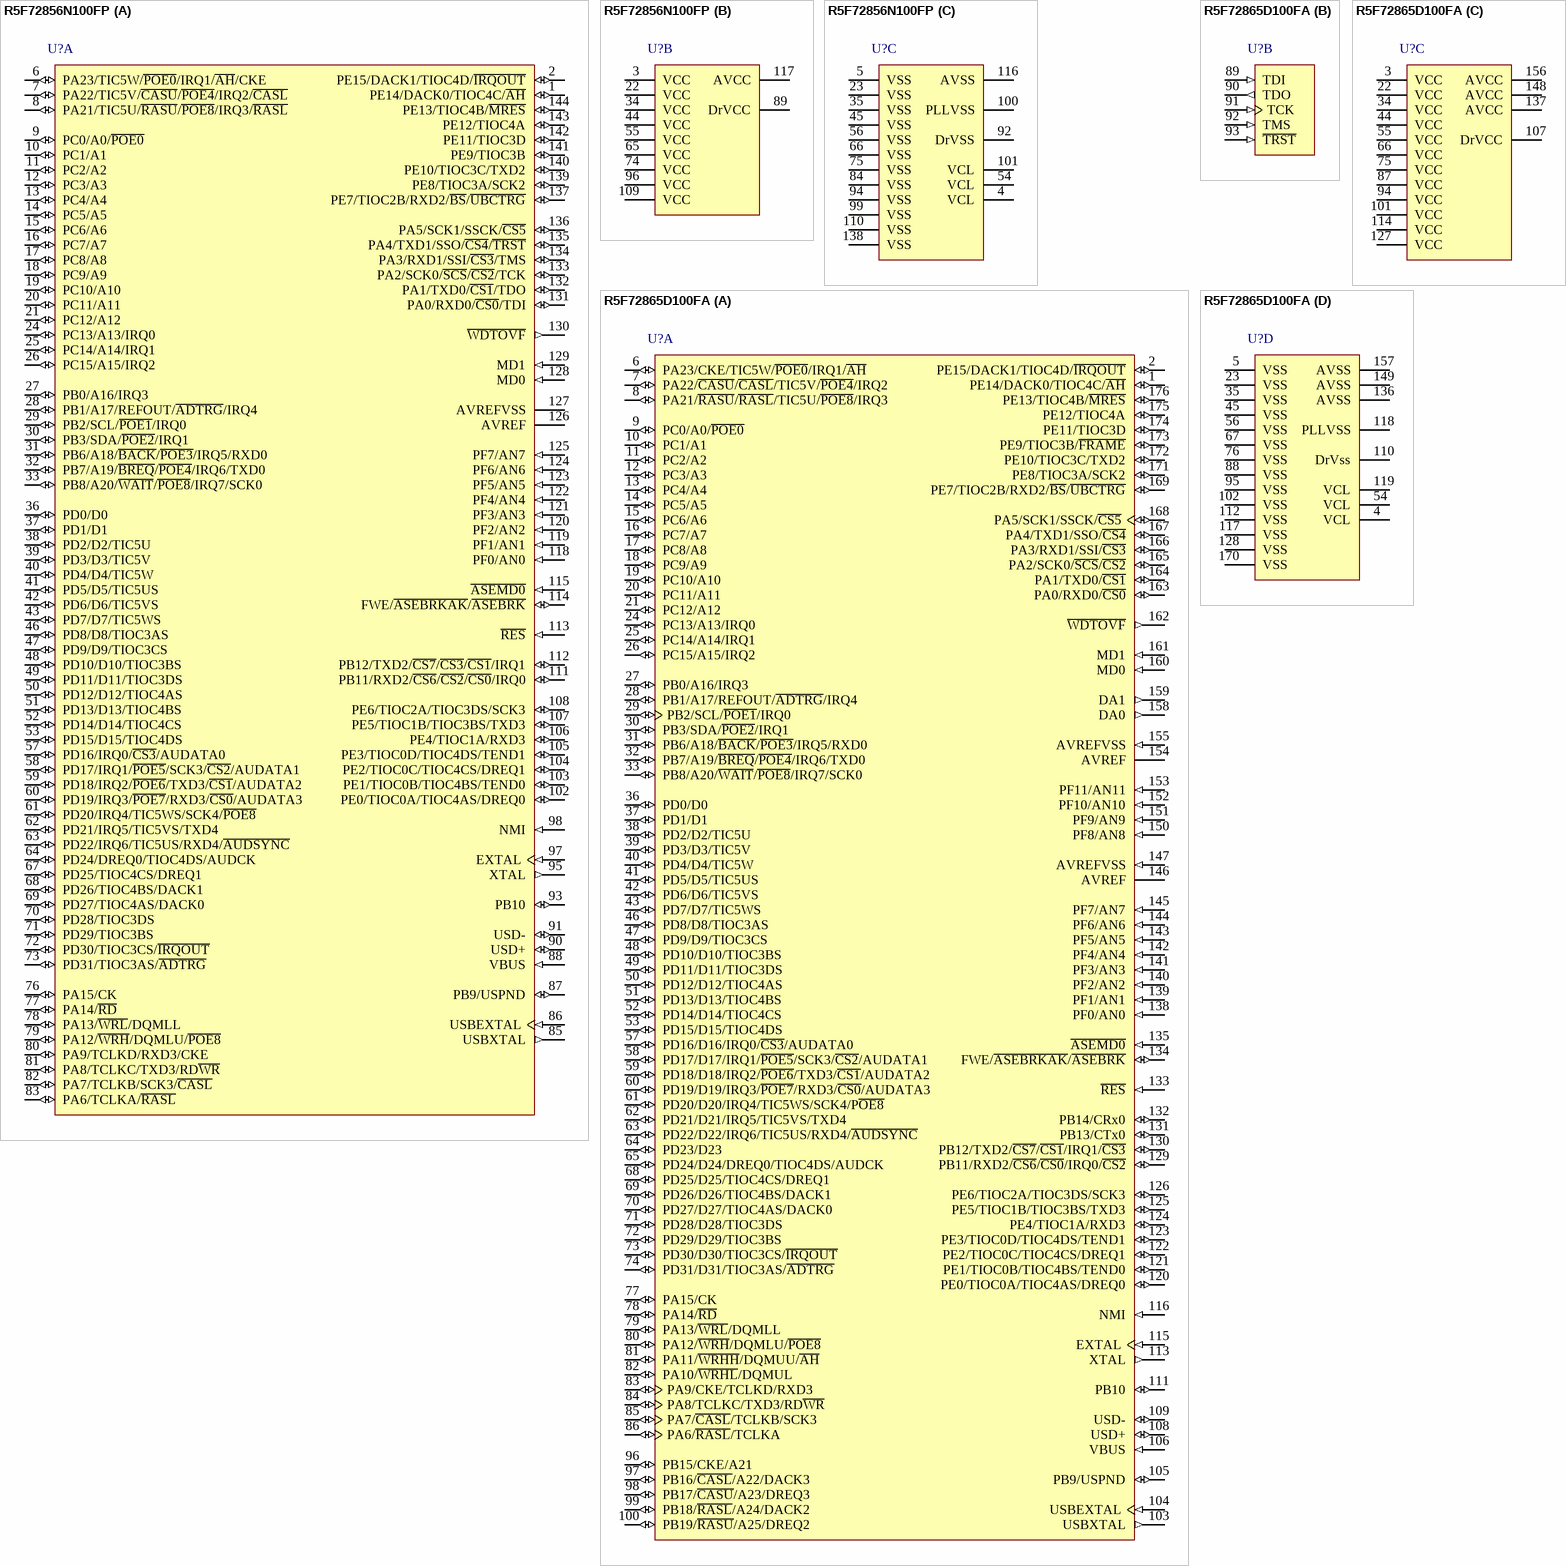
[diagram p186: symbols R5F72856N100FP to R5F72865D100FA]

## R5F72856N100FP
designator U?
32-Bit RISC Microcomputer, SH7280 Series, SH-2A core, 100MHz, 768K ROM, 32K RAM, 144-pin PLQFP, -20 to 85°C; Published: 28-Aug-2009; DatasheetVersion: Rev.1.00, Jun-2008; PackageVersion: Sep-2005; PackageReference: PLQP0144KA-A; Publisher: Altium Limited; PackageDescription: 144-Pin Plastic Low Profile QFP, 20 x 20 x 1.4 mm Body, 0.5 mm Pitch; Code_JEITA: P-LQFP144-20x20-0.50; Code_IPC: SQFP50P2200X2200-144; ComponentLink1Description: Manufacturer Link; ComponentLink1URL: http://www.renesas.com/fmwk.jsp?cnt=sh7285_root.jsp&fp=/products/mpumcu/superh_family/sh7280_series/sh7285_group/; ComponentLink2Description: Datasheet; ComponentLink2URL: http://documentation.renesas.com/eng/products/mpumcu/rej09b0393_sh7280hm.pdf; ComponentLink3Description: Packaging Specification; ComponentLink3URL: http://sg.renesas.com/media/products/common_info/package/pdf/ic/code/plqp0144ka_a.pdf
footprint PLQP0144KA-A_N (Shrink QFP, 144-Leads, Body 20x20mm, Pitch 0.5mm, IPC Medium Density)
footprint PLQP0144KA-A_L (Shrink QFP, 144-Leads, Body 20x20mm, Pitch 0.5mm, IPC High Density)
footprint PLQP0144KA-A_M (Shrink QFP, 144-Leads, Body 20x20mm, Pitch 0.5mm, IPC Low Density)
part A pins: 1 PE14/DACK0/TIOC4C/~{AH} (io), 2 PE15/DACK1/TIOC4D/~{IRQOUT} (io), 6 PA23/TIC5W/~{POE0}/IRQ1/~{AH}/CKE (io), 7 PA22/TIC5V/~{CASU}/~{POE4}/IRQ2/~{CASL} (io), 8 PA21/TIC5U/~{RASU}/~{POE8}/IRQ3/~{RASL} (io), 9 PC0/A0/~{POE0} (io), 10 PC1/A1 (io), 11 PC2/A2 (io), 12 PC3/A3 (io), 13 PC4/A4 (io), 14 PC5/A5 (io), 15 PC6/A6 (io), 16 PC7/A7 (io), 17 PC8/A8 (io), 18 PC9/A9 (io), 19 PC10/A10 (io), 20 PC11/A11 (io), 21 PC12/A12 (io), 24 PC13/A13/IRQ0 (io), 25 PC14/A14/IRQ1 (io), 26 PC15/A15/IRQ2 (io), 27 PB0/A16/IRQ3 (io), 28 PB1/A17/REFOUT/~{ADTRG}/IRQ4 (io), 29 PB2/SCL/~{POE1}/IRQ0 (io), 30 PB3/SDA/~{POE2}/IRQ1 (io), 31 PB6/A18/~{BACK}/~{POE3}/IRQ5/RXD0 (io), 32 PB7/A19/~{BREQ}/~{POE4}/IRQ6/TXD0 (io), 33 PB8/A20/~{WAIT}/~{POE8}/IRQ7/SCK0 (io), 36 PD0/D0 (io), 37 PD1/D1 (io), 38 PD2/D2/TIC5U (io), 39 PD3/D3/TIC5V (io), 40 PD4/D4/TIC5W (io), 41 PD5/D5/TIC5US (io), 42 PD6/D6/TIC5VS (io), 43 PD7/D7/TIC5WS (io), 46 PD8/D8/TIOC3AS (io), 47 PD9/D9/TIOC3CS (io), 48 PD10/D10/TIOC3BS (io), 49 PD11/D11/TIOC3DS (io), 50 PD12/D12/TIOC4AS (io), 51 PD13/D13/TIOC4BS (io), 52 PD14/D14/TIOC4CS (io), 53 PD15/D15/TIOC4DS (io), 57 PD16/IRQ0/~{CS3}/AUDATA0 (io), 58 PD17/IRQ1/~{POE5}/SCK3/~{CS2}/AUDATA1 (io), 59 PD18/IRQ2/~{POE6}/TXD3/~{CS1}/AUDATA2 (io), 60 PD19/IRQ3/~{POE7}/RXD3/~{CS0}/AUDATA3 (io), 61 PD20/IRQ4/TIC5WS/SCK4/~{POE8} (io), 62 PD21/IRQ5/TIC5VS/TXD4 (io), 63 PD22/IRQ6/TIC5US/RXD4/~{AUDSYNC} (io), 64 PD24/DREQ0/TIOC4DS/AUDCK (io), 67 PD25/TIOC4CS/DREQ1 (io), 68 PD26/TIOC4BS/DACK1 (io), 69 PD27/TIOC4AS/DACK0 (io), 70 PD28/TIOC3DS (io), 71 PD29/TIOC3BS (io), 72 PD30/TIOC3CS/~{IRQOUT} (io), 73 PD31/TIOC3AS/~{ADTRG} (io), 76 PA15/CK (io), 77 PA14/~{RD} (io), 78 PA13/~{WRL}/DQMLL (io), 79 PA12/~{WRH}/DQMLU/~{POE8} (io), 80 PA9/TCLKD/RXD3/CKE (io), 81 PA8/TCLKC/TXD3/RD~{WR} (io), 82 PA7/TCLKB/SCK3/~{CASL} (io), 83 PA6/TCLKA/~{RASL} (io), 85 USBXTAL (out), 86 USBEXTAL (in), 87 PB9/USPND (io), 88 VBUS (in), 90 USD+ (io), 91 USD- (io), 93 PB10 (io), 95 XTAL (out), 97 EXTAL (in), 98 NMI (in), 102 PE0/TIOC0A/TIOC4AS/DREQ0 (io), 103 PE1/TIOC0B/TIOC4BS/TEND0 (io), 104 PE2/TIOC0C/TIOC4CS/DREQ1 (io), 105 PE3/TIOC0D/TIOC4DS/TEND1 (io), 106 PE4/TIOC1A/RXD3 (io), 107 PE5/TIOC1B/TIOC3BS/TXD3 (io), 108 PE6/TIOC2A/TIOC3DS/SCK3 (io), 111 PB11/RXD2/~{CS6}/~{CS2}/~{CS0}/IRQ0 (io), 112 PB12/TXD2/~{CS7}/~{CS3}/~{CS1}/IRQ1 (io), 113 ~{RES} (in), 114 FWE/~{ASEBRKAK}/~{ASEBRK} (io), 115 ~{ASEMD0} (in), 118 PF0/AN0 (in), 119 PF1/AN1 (in), 120 PF2/AN2 (in), 121 PF3/AN3 (in), 122 PF4/AN4 (in), 123 PF5/AN5 (in), 124 PF6/AN6 (in), 125 PF7/AN7 (in), 126 AVREF, 127 AVREFVSS, 128 MD0 (in), 129 MD1 (in), 130 ~{WDTOVF} (out), 131 PA0/RXD0/~{CS0}/TDI (io), 132 PA1/TXD0/~{CS1}/TDO (io), 133 PA2/SCK0/~{SCS}/~{CS2}/TCK (io), 134 PA3/RXD1/SSI/~{CS3}/TMS (io), 135 PA4/TXD1/SSO/~{CS4}/~{TRST} (io), 136 PA5/SCK1/SSCK/~{CS5} (io), 137 PE7/TIOC2B/RXD2/~{BS}/~{UBCTRG} (io), 139 PE8/TIOC3A/SCK2 (io), 140 PE10/TIOC3C/TXD2 (io), 141 PE9/TIOC3B (io), 142 PE11/TIOC3D (io), 143 PE12/TIOC4A (io), 144 PE13/TIOC4B/~{MRES} (io)
part B pins: 3 VCC, 22 VCC, 34 VCC, 44 VCC, 55 VCC, 65 VCC, 74 VCC, 89 DrVCC, 96 VCC, 109 VCC, 117 AVCC
part C pins: 4 VCL, 5 VSS, 23 VSS, 35 VSS, 45 VSS, 54 VCL, 56 VSS, 66 VSS, 75 VSS, 84 VSS, 92 DrVSS, 94 VSS, 99 VSS, 100 PLLVSS, 101 VCL, 110 VSS, 116 AVSS, 138 VSS

## R5F72865D100FA
designator U?
32-Bit RISC Microcomputer, SH7280 Series, SH-2A core, 100MHz, 512K ROM, 24K RAM, 20x20mm 176-pin PLQFP, -40 to 85°C; Published: 28-Aug-2009; DatasheetVersion: Rev.1.00, Jun-2008; PackageVersion: Sep-2005; PackageReference: PLQP0176LB-A; Publisher: Altium Limited; PackageDescription: 176-Pin Plastic Low Profile QFP, 20 x 20 x 1.4 mm Body, 0.4 mm Pitch; Code_JEITA: P-LQFP176-20x20-0.40; ComponentLink1Description: Manufacturer Link; ComponentLink1URL: http://www.renesas.com/fmwk.jsp?cnt=sh7286_root.jsp&fp=/products/mpumcu/superh_family/sh7280_series/sh7286_group/; ComponentLink2Description: Datasheet; ComponentLink2URL: http://documentation.renesas.com/eng/products/mpumcu/rej09b0393_sh7280hm.pdf; ComponentLink3Description: Packaging Specification; ComponentLink3URL: http://sg.renesas.com/media/products/common_info/package/pdf/ic/code/plqp0176lb_a.pdf
footprint PLQP0176LB-A_N (Shrink QFP, 176-Leads, Body 20x20mm, Pitch 0.4mm, IPC Medium Density)
footprint PLQP0176LB-A_L (Shrink QFP, 176-Leads, Body 20x20mm, Pitch 0.4mm, IPC High Density)
footprint PLQP0176LB-A_M (Shrink QFP, 176-Leads, Body 20x20mm, Pitch 0.4mm, IPC Low Density)
part A pins: 1 PE14/DACK0/TIOC4C/~{AH} (io), 2 PE15/DACK1/TIOC4D/~{IRQOUT} (io), 6 PA23/CKE/TIC5W/~{POE0}/IRQ1/~{AH} (io), 7 PA22/~{CASU}/~{CASL}/TIC5V/~{POE4}/IRQ2 (io), 8 PA21/~{RASU}/~{RASL}/TIC5U/~{POE8}/IRQ3 (io), 9 PC0/A0/~{POE0} (io), 10 PC1/A1 (io), 11 PC2/A2 (io), 12 PC3/A3 (io), 13 PC4/A4 (io), 14 PC5/A5 (io), 15 PC6/A6 (io), 16 PC7/A7 (io), 17 PC8/A8 (io), 18 PC9/A9 (io), 19 PC10/A10 (io), 20 PC11/A11 (io), 21 PC12/A12 (io), 24 PC13/A13/IRQ0 (io), 25 PC14/A14/IRQ1 (io), 26 PC15/A15/IRQ2 (io), 27 PB0/A16/IRQ3 (io), 28 PB1/A17/REFOUT/~{ADTRG}/IRQ4 (io), 29 PB2/SCL/~{POE1}/IRQ0 (io), 30 PB3/SDA/~{POE2}/IRQ1 (io), 31 PB6/A18/~{BACK}/~{POE3}/IRQ5/RXD0 (io), 32 PB7/A19/~{BREQ}/~{POE4}/IRQ6/TXD0 (io), 33 PB8/A20/~{WAIT}/~{POE8}/IRQ7/SCK0 (io), 36 PD0/D0 (io), 37 PD1/D1 (io), 38 PD2/D2/TIC5U (io), 39 PD3/D3/TIC5V (io), 40 PD4/D4/TIC5W (io), 41 PD5/D5/TIC5US (io), 42 PD6/D6/TIC5VS (io), 43 PD7/D7/TIC5WS (io), 46 PD8/D8/TIOC3AS (io), 47 PD9/D9/TIOC3CS (io), 48 PD10/D10/TIOC3BS (io), 49 PD11/D11/TIOC3DS (io), 50 PD12/D12/TIOC4AS (io), 51 PD13/D13/TIOC4BS (io), 52 PD14/D14/TIOC4CS (io), 53 PD15/D15/TIOC4DS (io), 57 PD16/D16/IRQ0/~{CS3}/AUDATA0 (io), 58 PD17/D17/IRQ1/~{POE5}/SCK3/~{CS2}/AUDATA1 (io), 59 PD18/D18/IRQ2/~{POE6}/TXD3/~{CS1}/AUDATA2 (io), 60 PD19/D19/IRQ3/~{POE7}/RXD3/~{CS0}/AUDATA3 (io), 61 PD20/D20/IRQ4/TIC5WS/SCK4/P~{OE8} (io), 62 PD21/D21/IRQ5/TIC5VS/TXD4 (io), 63 PD22/D22/IRQ6/TIC5US/RXD4/~{AUDSYNC} (io), 64 PD23/D23 (io), 65 PD24/D24/DREQ0/TIOC4DS/AUDCK (io), 68 PD25/D25/TIOC4CS/DREQ1 (io), 69 PD26/D26/TIOC4BS/DACK1 (io), 70 PD27/D27/TIOC4AS/DACK0 (io), 71 PD28/D28/TIOC3DS (io), 72 PD29/D29/TIOC3BS (io), 73 PD30/D30/TIOC3CS/~{IRQOUT} (io), 74 PD31/D31/TIOC3AS/~{ADTRG} (io), 77 PA15/CK (io), 78 PA14/~{RD} (io), 79 PA13/~{WRL}/DQMLL (io), 80 PA12/~{WRH}/DQMLU/~{POE8} (io), 81 PA11/~{WRHH}/DQMUU/~{AH} (io), 82 PA10/~{WRHL}/DQMUL (io), 83 PA9/CKE/TCLKD/RXD3 (io), 84 PA8/TCLKC/TXD3/RD~{WR} (io), 85 PA7/~{CASL}/TCLKB/SCK3 (io), 86 PA6/~{RASL}/TCLKA (io), 96 PB15/CKE/A21 (io), 97 PB16/~{CASL}/A22/DACK3 (io), 98 PB17/~{CASU}/A23/DREQ3 (io), 99 PB18/~{RASL}/A24/DACK2 (io), 100 PB19/~{RASU}/A25/DREQ2 (io), 103 USBXTAL (out), 104 USBEXTAL (in), 105 PB9/USPND (io), 106 VBUS (in), 108 USD+ (io), 109 USD- (io), 111 PB10 (io), 113 XTAL (out), 115 EXTAL (in), 116 NMI (in), 120 PE0/TIOC0A/TIOC4AS/DREQ0 (io), 121 PE1/TIOC0B/TIOC4BS/TEND0 (io), 122 PE2/TIOC0C/TIOC4CS/DREQ1 (io), 123 PE3/TIOC0D/TIOC4DS/TEND1 (io), 124 PE4/TIOC1A/RXD3 (io), 125 PE5/TIOC1B/TIOC3BS/TXD3 (io), 126 PE6/TIOC2A/TIOC3DS/SCK3 (io), 129 PB11/RXD2/~{CS6}/~{CS0}/IRQ0/~{CS2} (io), 130 PB12/TXD2/~{CS7}/~{CS1}/IRQ1/~{CS3} (io), 131 PB13/CTx0 (io), 132 PB14/CRx0 (io), 133 ~{RES} (in), 134 FWE/~{ASEBRKAK}/~{ASEBRK} (io), 135 ~{ASEMD0} (in), 138 PF0/AN0 (in), 139 PF1/AN1 (in), 140 PF2/AN2 (in), 141 PF3/AN3 (in), 142 PF4/AN4 (in), 143 PF5/AN5 (in), 144 PF6/AN6 (in), 145 PF7/AN7 (in), 146 AVREF (power), 147 AVREFVSS (in), 150 PF8/AN8 (in), 151 PF9/AN9 (in), 152 PF10/AN10 (in), 153 PF11/AN11 (in), 154 AVREF (power), 155 AVREFVSS (in), 158 DA0 (out), 159 DA1 (out), 160 MD0 (in), 161 MD1 (in), 162 ~{WDTOVF} (out), 163 PA0/RXD0/~{CS0} (io), 164 PA1/TXD0/~{CS1} (io), 165 PA2/SCK0/~{SCS}/~{CS2} (io), 166 PA3/RXD1/SSI/~{CS3} (io), 167 PA4/TXD1/SSO/~{CS4} (io), 168 PA5/SCK1/SSCK/~{CS5} (io), 169 PE7/TIOC2B/RXD2/~{BS}/~{UBCTRG} (io), 171 PE8/TIOC3A/SCK2 (io), 172 PE10/TIOC3C/TXD2 (io), 173 PE9/TIOC3B/~{FRAME} (io), 174 PE11/TIOC3D (io), 175 PE12/TIOC4A (io), 176 PE13/TIOC4B/~{MRES} (io)
part B pins: 89 TDI (in), 90 TDO (out), 91 TCK (in), 92 TMS (in), 93 ~{TRST} (in)
part C pins: 3 VCC (power), 22 VCC (power), 34 VCC (power), 44 VCC (power), 55 VCC (power), 66 VCC (power), 75 VCC (power), 87 VCC (power), 94 VCC (power), 101 VCC (power), 107 DrVCC (power), 114 VCC (power), 127 VCC (power), 137 AVCC (power), 148 AVCC (power), 156 AVCC (power)
part D pins: 4 VCL (power), 5 VSS (power), 23 VSS (power), 35 VSS (power), 45 VSS (power), 54 VCL (power), 56 VSS (power), 67 VSS (power), 76 VSS (power), 88 VSS (power), 95 VSS (power), 102 VSS (power), 110 DrVss (power), 112 VSS (power), 117 VSS (power), 118 PLLVSS (power), 119 VCL (power), 128 VSS (power), 136 AVSS (power), 149 AVSS (power), 157 AVSS (power), 170 VSS (power)

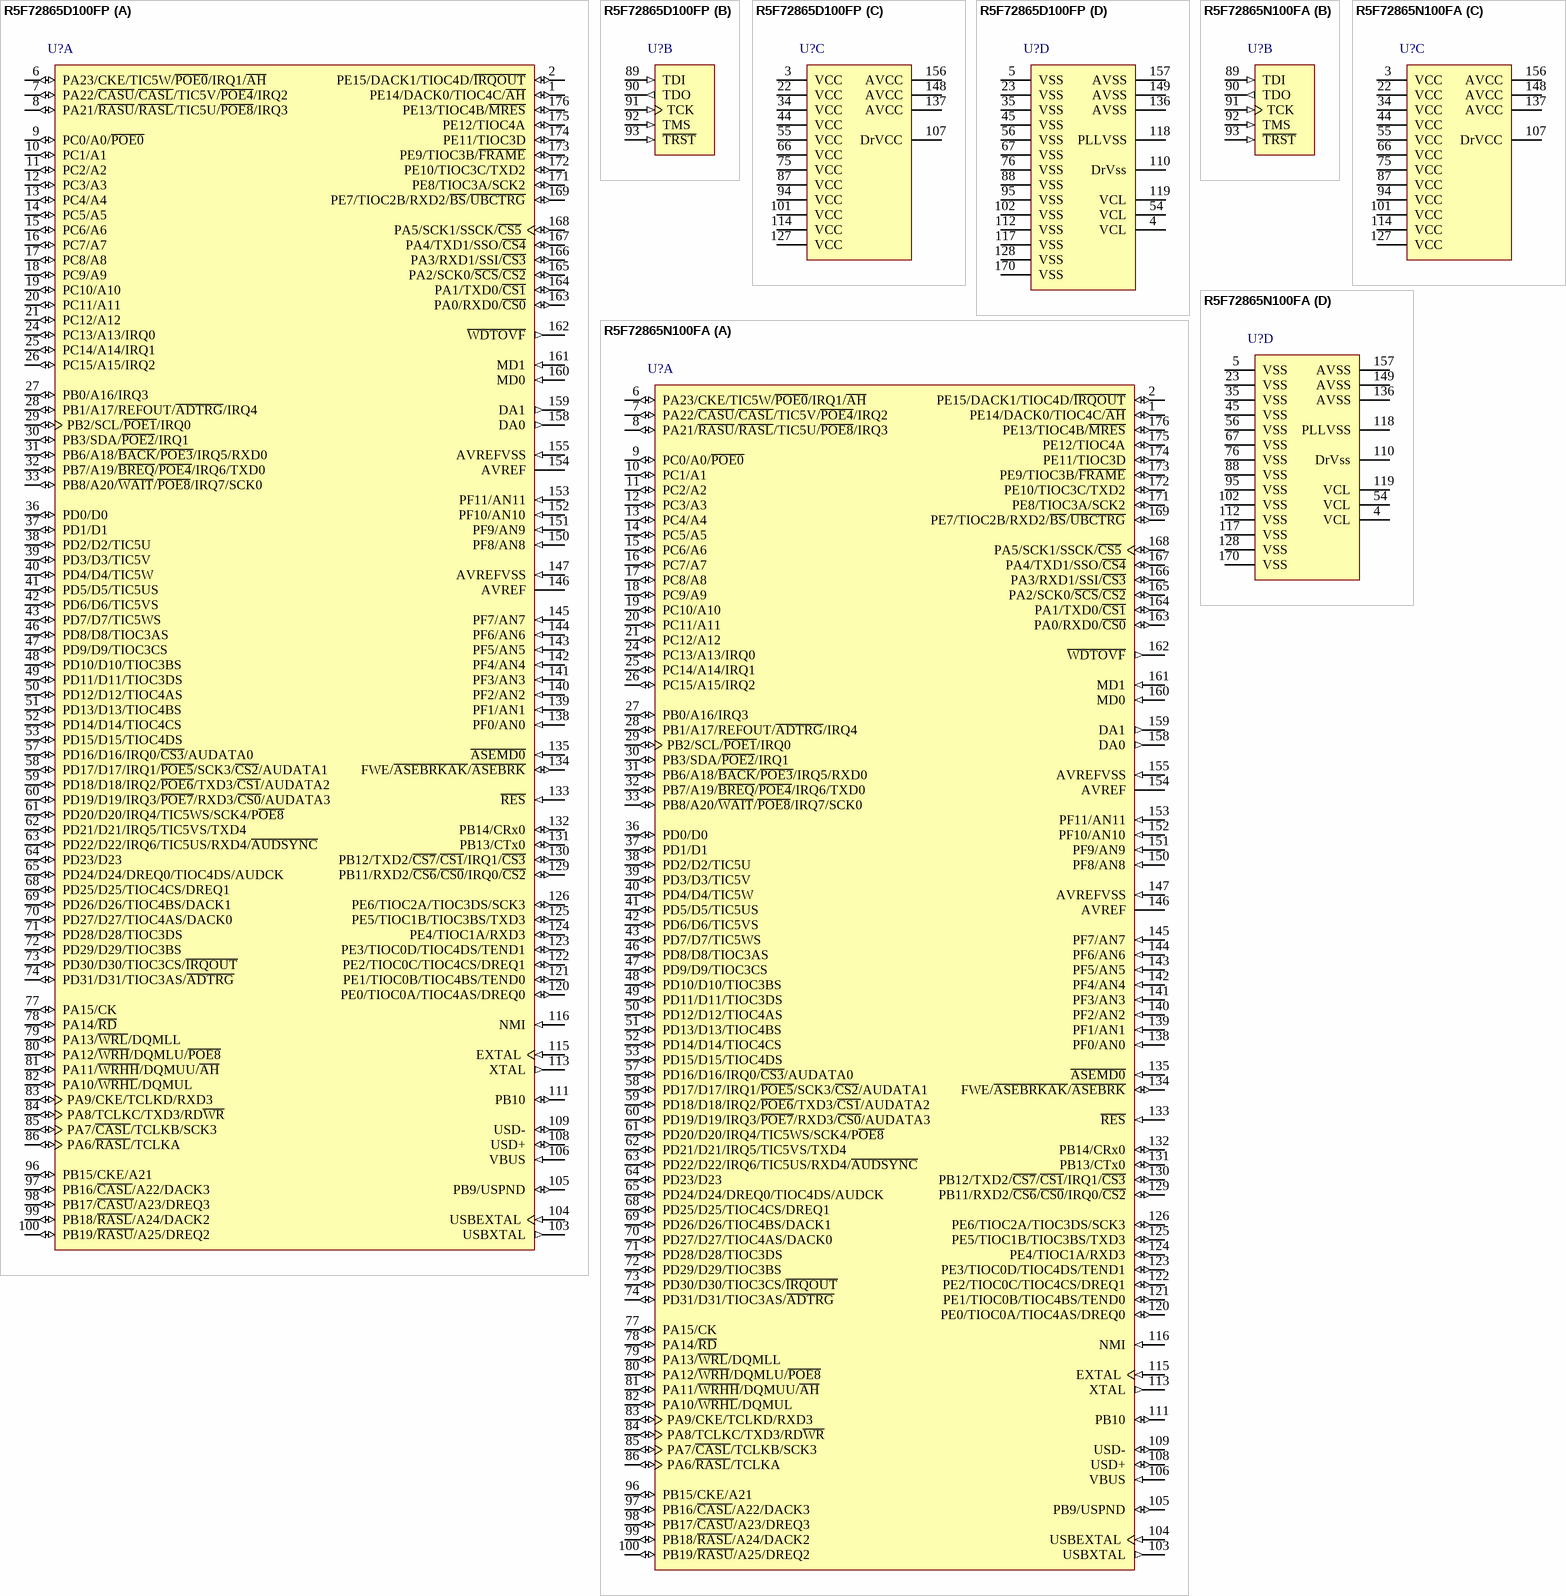
[diagram p187: symbols R5F72865D100FP to R5F72865N100FA]

## R5F72865D100FP
designator U?
32-Bit RISC Microcomputer, SH7280 Series, SH-2A core, 100MHz, 512K ROM, 24K RAM, 24x24mm 176-pin PLQFP, -40 to 85°C; Published: 28-Aug-2009; DatasheetVersion: Rev.1.00, Jun-2008; PackageVersion: Oct-2005; PackageReference: PLQP0176KB-A; Publisher: Altium Limited; PackageDescription: 176-Pin Plastic Low Profile QFP, 24 x 24 x 1.4 mm Body, 0.5 mm Pitch; Code_JEITA: P-LQFP176-24x24-0.50; ComponentLink1Description: Manufacturer Link; ComponentLink1URL: http://www.renesas.com/fmwk.jsp?cnt=sh7286_root.jsp&fp=/products/mpumcu/superh_family/sh7280_series/sh7286_group/; ComponentLink2Description: Datasheet; ComponentLink2URL: http://documentation.renesas.com/eng/products/mpumcu/rej09b0393_sh7280hm.pdf; ComponentLink3Description: Packaging Specification; ComponentLink3URL: http://sg.renesas.com/media/products/common_info/package/pdf/ic/code/plqp0176kb_a.pdf
footprint PLQP0176KB-A_N (Shrink QFP, 176-Leads, Body 24x24mm, Pitch 0.5mm, IPC Medium Density)
footprint PLQP0176KB-A_L (Shrink QFP, 176-Leads, Body 24x24mm, Pitch 0.5mm, IPC High Density)
footprint PLQP0176KB-A_M (Shrink QFP, 176-Leads, Body 24x24mm, Pitch 0.5mm, IPC Low Density)
part A pins: 1 PE14/DACK0/TIOC4C/~{AH} (io), 2 PE15/DACK1/TIOC4D/~{IRQOUT} (io), 6 PA23/CKE/TIC5W/~{POE0}/IRQ1/~{AH} (io), 7 PA22/~{CASU}/~{CASL}/TIC5V/~{POE4}/IRQ2 (io), 8 PA21/~{RASU}/~{RASL}/TIC5U/~{POE8}/IRQ3 (io), 9 PC0/A0/~{POE0} (io), 10 PC1/A1 (io), 11 PC2/A2 (io), 12 PC3/A3 (io), 13 PC4/A4 (io), 14 PC5/A5 (io), 15 PC6/A6 (io), 16 PC7/A7 (io), 17 PC8/A8 (io), 18 PC9/A9 (io), 19 PC10/A10 (io), 20 PC11/A11 (io), 21 PC12/A12 (io), 24 PC13/A13/IRQ0 (io), 25 PC14/A14/IRQ1 (io), 26 PC15/A15/IRQ2 (io), 27 PB0/A16/IRQ3 (io), 28 PB1/A17/REFOUT/~{ADTRG}/IRQ4 (io), 29 PB2/SCL/~{POE1}/IRQ0 (io), 30 PB3/SDA/~{POE2}/IRQ1 (io), 31 PB6/A18/~{BACK}/~{POE3}/IRQ5/RXD0 (io), 32 PB7/A19/~{BREQ}/~{POE4}/IRQ6/TXD0 (io), 33 PB8/A20/~{WAIT}/~{POE8}/IRQ7/SCK0 (io), 36 PD0/D0 (io), 37 PD1/D1 (io), 38 PD2/D2/TIC5U (io), 39 PD3/D3/TIC5V (io), 40 PD4/D4/TIC5W (io), 41 PD5/D5/TIC5US (io), 42 PD6/D6/TIC5VS (io), 43 PD7/D7/TIC5WS (io), 46 PD8/D8/TIOC3AS (io), 47 PD9/D9/TIOC3CS (io), 48 PD10/D10/TIOC3BS (io), 49 PD11/D11/TIOC3DS (io), 50 PD12/D12/TIOC4AS (io), 51 PD13/D13/TIOC4BS (io), 52 PD14/D14/TIOC4CS (io), 53 PD15/D15/TIOC4DS (io), 57 PD16/D16/IRQ0/~{CS3}/AUDATA0 (io), 58 PD17/D17/IRQ1/~{POE5}/SCK3/~{CS2}/AUDATA1 (io), 59 PD18/D18/IRQ2/~{POE6}/TXD3/~{CS1}/AUDATA2 (io), 60 PD19/D19/IRQ3/~{POE7}/RXD3/~{CS0}/AUDATA3 (io), 61 PD20/D20/IRQ4/TIC5WS/SCK4/P~{OE8} (io), 62 PD21/D21/IRQ5/TIC5VS/TXD4 (io), 63 PD22/D22/IRQ6/TIC5US/RXD4/~{AUDSYNC} (io), 64 PD23/D23 (io), 65 PD24/D24/DREQ0/TIOC4DS/AUDCK (io), 68 PD25/D25/TIOC4CS/DREQ1 (io), 69 PD26/D26/TIOC4BS/DACK1 (io), 70 PD27/D27/TIOC4AS/DACK0 (io), 71 PD28/D28/TIOC3DS (io), 72 PD29/D29/TIOC3BS (io), 73 PD30/D30/TIOC3CS/~{IRQOUT} (io), 74 PD31/D31/TIOC3AS/~{ADTRG} (io), 77 PA15/CK (io), 78 PA14/~{RD} (io), 79 PA13/~{WRL}/DQMLL (io), 80 PA12/~{WRH}/DQMLU/~{POE8} (io), 81 PA11/~{WRHH}/DQMUU/~{AH} (io), 82 PA10/~{WRHL}/DQMUL (io), 83 PA9/CKE/TCLKD/RXD3 (io), 84 PA8/TCLKC/TXD3/RD~{WR} (io), 85 PA7/~{CASL}/TCLKB/SCK3 (io), 86 PA6/~{RASL}/TCLKA (io), 96 PB15/CKE/A21 (io), 97 PB16/~{CASL}/A22/DACK3 (io), 98 PB17/~{CASU}/A23/DREQ3 (io), 99 PB18/~{RASL}/A24/DACK2 (io), 100 PB19/~{RASU}/A25/DREQ2 (io), 103 USBXTAL (out), 104 USBEXTAL (in), 105 PB9/USPND (io), 106 VBUS (in), 108 USD+ (io), 109 USD- (io), 111 PB10 (io), 113 XTAL (out), 115 EXTAL (in), 116 NMI (in), 120 PE0/TIOC0A/TIOC4AS/DREQ0 (io), 121 PE1/TIOC0B/TIOC4BS/TEND0 (io), 122 PE2/TIOC0C/TIOC4CS/DREQ1 (io), 123 PE3/TIOC0D/TIOC4DS/TEND1 (io), 124 PE4/TIOC1A/RXD3 (io), 125 PE5/TIOC1B/TIOC3BS/TXD3 (io), 126 PE6/TIOC2A/TIOC3DS/SCK3 (io), 129 PB11/RXD2/~{CS6}/~{CS0}/IRQ0/~{CS2} (io), 130 PB12/TXD2/~{CS7}/~{CS1}/IRQ1/~{CS3} (io), 131 PB13/CTx0 (io), 132 PB14/CRx0 (io), 133 ~{RES} (in), 134 FWE/~{ASEBRKAK}/~{ASEBRK} (io), 135 ~{ASEMD0} (in), 138 PF0/AN0 (in), 139 PF1/AN1 (in), 140 PF2/AN2 (in), 141 PF3/AN3 (in), 142 PF4/AN4 (in), 143 PF5/AN5 (in), 144 PF6/AN6 (in), 145 PF7/AN7 (in), 146 AVREF (power), 147 AVREFVSS (in), 150 PF8/AN8 (in), 151 PF9/AN9 (in), 152 PF10/AN10 (in), 153 PF11/AN11 (in), 154 AVREF (power), 155 AVREFVSS (in), 158 DA0 (out), 159 DA1 (out), 160 MD0 (in), 161 MD1 (in), 162 ~{WDTOVF} (out), 163 PA0/RXD0/~{CS0} (io), 164 PA1/TXD0/~{CS1} (io), 165 PA2/SCK0/~{SCS}/~{CS2} (io), 166 PA3/RXD1/SSI/~{CS3} (io), 167 PA4/TXD1/SSO/~{CS4} (io), 168 PA5/SCK1/SSCK/~{CS5} (io), 169 PE7/TIOC2B/RXD2/~{BS}/~{UBCTRG} (io), 171 PE8/TIOC3A/SCK2 (io), 172 PE10/TIOC3C/TXD2 (io), 173 PE9/TIOC3B/~{FRAME} (io), 174 PE11/TIOC3D (io), 175 PE12/TIOC4A (io), 176 PE13/TIOC4B/~{MRES} (io)
part B pins: 89 TDI (in), 90 TDO (out), 91 TCK (in), 92 TMS (in), 93 ~{TRST} (in)
part C pins: 3 VCC (power), 22 VCC (power), 34 VCC (power), 44 VCC (power), 55 VCC (power), 66 VCC (power), 75 VCC (power), 87 VCC (power), 94 VCC (power), 101 VCC (power), 107 DrVCC (power), 114 VCC (power), 127 VCC (power), 137 AVCC (power), 148 AVCC (power), 156 AVCC (power)
part D pins: 4 VCL (power), 5 VSS (power), 23 VSS (power), 35 VSS (power), 45 VSS (power), 54 VCL (power), 56 VSS (power), 67 VSS (power), 76 VSS (power), 88 VSS (power), 95 VSS (power), 102 VSS (power), 110 DrVss (power), 112 VSS (power), 117 VSS (power), 118 PLLVSS (power), 119 VCL (power), 128 VSS (power), 136 AVSS (power), 149 AVSS (power), 157 AVSS (power), 170 VSS (power)

## R5F72865N100FA
designator U?
32-Bit RISC Microcomputer, SH7280 Series, SH-2A core, 100MHz, 512K ROM, 24K RAM, 20x20mm 176-pin PLQFP, -20 to 85°C; Published: 28-Aug-2009; DatasheetVersion: Rev.1.00, Jun-2008; PackageVersion: Sep-2005; PackageReference: PLQP0176LB-A; Publisher: Altium Limited; PackageDescription: 176-Pin Plastic Low Profile QFP, 20 x 20 x 1.4 mm Body, 0.4 mm Pitch; Code_JEITA: P-LQFP176-20x20-0.40; ComponentLink1Description: Manufacturer Link; ComponentLink1URL: http://www.renesas.com/fmwk.jsp?cnt=sh7286_root.jsp&fp=/products/mpumcu/superh_family/sh7280_series/sh7286_group/; ComponentLink2Description: Datasheet; ComponentLink2URL: http://documentation.renesas.com/eng/products/mpumcu/rej09b0393_sh7280hm.pdf; ComponentLink3Description: Packaging Specification; ComponentLink3URL: http://sg.renesas.com/media/products/common_info/package/pdf/ic/code/plqp0176lb_a.pdf
footprint PLQP0176LB-A_N (Shrink QFP, 176-Leads, Body 20x20mm, Pitch 0.4mm, IPC Medium Density)
footprint PLQP0176LB-A_L (Shrink QFP, 176-Leads, Body 20x20mm, Pitch 0.4mm, IPC High Density)
footprint PLQP0176LB-A_M (Shrink QFP, 176-Leads, Body 20x20mm, Pitch 0.4mm, IPC Low Density)
part A pins: 1 PE14/DACK0/TIOC4C/~{AH} (io), 2 PE15/DACK1/TIOC4D/~{IRQOUT} (io), 6 PA23/CKE/TIC5W/~{POE0}/IRQ1/~{AH} (io), 7 PA22/~{CASU}/~{CASL}/TIC5V/~{POE4}/IRQ2 (io), 8 PA21/~{RASU}/~{RASL}/TIC5U/~{POE8}/IRQ3 (io), 9 PC0/A0/~{POE0} (io), 10 PC1/A1 (io), 11 PC2/A2 (io), 12 PC3/A3 (io), 13 PC4/A4 (io), 14 PC5/A5 (io), 15 PC6/A6 (io), 16 PC7/A7 (io), 17 PC8/A8 (io), 18 PC9/A9 (io), 19 PC10/A10 (io), 20 PC11/A11 (io), 21 PC12/A12 (io), 24 PC13/A13/IRQ0 (io), 25 PC14/A14/IRQ1 (io), 26 PC15/A15/IRQ2 (io), 27 PB0/A16/IRQ3 (io), 28 PB1/A17/REFOUT/~{ADTRG}/IRQ4 (io), 29 PB2/SCL/~{POE1}/IRQ0 (io), 30 PB3/SDA/~{POE2}/IRQ1 (io), 31 PB6/A18/~{BACK}/~{POE3}/IRQ5/RXD0 (io), 32 PB7/A19/~{BREQ}/~{POE4}/IRQ6/TXD0 (io), 33 PB8/A20/~{WAIT}/~{POE8}/IRQ7/SCK0 (io), 36 PD0/D0 (io), 37 PD1/D1 (io), 38 PD2/D2/TIC5U (io), 39 PD3/D3/TIC5V (io), 40 PD4/D4/TIC5W (io), 41 PD5/D5/TIC5US (io), 42 PD6/D6/TIC5VS (io), 43 PD7/D7/TIC5WS (io), 46 PD8/D8/TIOC3AS (io), 47 PD9/D9/TIOC3CS (io), 48 PD10/D10/TIOC3BS (io), 49 PD11/D11/TIOC3DS (io), 50 PD12/D12/TIOC4AS (io), 51 PD13/D13/TIOC4BS (io), 52 PD14/D14/TIOC4CS (io), 53 PD15/D15/TIOC4DS (io), 57 PD16/D16/IRQ0/~{CS3}/AUDATA0 (io), 58 PD17/D17/IRQ1/~{POE5}/SCK3/~{CS2}/AUDATA1 (io), 59 PD18/D18/IRQ2/~{POE6}/TXD3/~{CS1}/AUDATA2 (io), 60 PD19/D19/IRQ3/~{POE7}/RXD3/~{CS0}/AUDATA3 (io), 61 PD20/D20/IRQ4/TIC5WS/SCK4/P~{OE8} (io), 62 PD21/D21/IRQ5/TIC5VS/TXD4 (io), 63 PD22/D22/IRQ6/TIC5US/RXD4/~{AUDSYNC} (io), 64 PD23/D23 (io), 65 PD24/D24/DREQ0/TIOC4DS/AUDCK (io), 68 PD25/D25/TIOC4CS/DREQ1 (io), 69 PD26/D26/TIOC4BS/DACK1 (io), 70 PD27/D27/TIOC4AS/DACK0 (io), 71 PD28/D28/TIOC3DS (io), 72 PD29/D29/TIOC3BS (io), 73 PD30/D30/TIOC3CS/~{IRQOUT} (io), 74 PD31/D31/TIOC3AS/~{ADTRG} (io), 77 PA15/CK (io), 78 PA14/~{RD} (io), 79 PA13/~{WRL}/DQMLL (io), 80 PA12/~{WRH}/DQMLU/~{POE8} (io), 81 PA11/~{WRHH}/DQMUU/~{AH} (io), 82 PA10/~{WRHL}/DQMUL (io), 83 PA9/CKE/TCLKD/RXD3 (io), 84 PA8/TCLKC/TXD3/RD~{WR} (io), 85 PA7/~{CASL}/TCLKB/SCK3 (io), 86 PA6/~{RASL}/TCLKA (io), 96 PB15/CKE/A21 (io), 97 PB16/~{CASL}/A22/DACK3 (io), 98 PB17/~{CASU}/A23/DREQ3 (io), 99 PB18/~{RASL}/A24/DACK2 (io), 100 PB19/~{RASU}/A25/DREQ2 (io), 103 USBXTAL (out), 104 USBEXTAL (in), 105 PB9/USPND (io), 106 VBUS (in), 108 USD+ (io), 109 USD- (io), 111 PB10 (io), 113 XTAL (out), 115 EXTAL (in), 116 NMI (in), 120 PE0/TIOC0A/TIOC4AS/DREQ0 (io), 121 PE1/TIOC0B/TIOC4BS/TEND0 (io), 122 PE2/TIOC0C/TIOC4CS/DREQ1 (io), 123 PE3/TIOC0D/TIOC4DS/TEND1 (io), 124 PE4/TIOC1A/RXD3 (io), 125 PE5/TIOC1B/TIOC3BS/TXD3 (io), 126 PE6/TIOC2A/TIOC3DS/SCK3 (io), 129 PB11/RXD2/~{CS6}/~{CS0}/IRQ0/~{CS2} (io), 130 PB12/TXD2/~{CS7}/~{CS1}/IRQ1/~{CS3} (io), 131 PB13/CTx0 (io), 132 PB14/CRx0 (io), 133 ~{RES} (in), 134 FWE/~{ASEBRKAK}/~{ASEBRK} (io), 135 ~{ASEMD0} (in), 138 PF0/AN0 (in), 139 PF1/AN1 (in), 140 PF2/AN2 (in), 141 PF3/AN3 (in), 142 PF4/AN4 (in), 143 PF5/AN5 (in), 144 PF6/AN6 (in), 145 PF7/AN7 (in), 146 AVREF (power), 147 AVREFVSS (in), 150 PF8/AN8 (in), 151 PF9/AN9 (in), 152 PF10/AN10 (in), 153 PF11/AN11 (in), 154 AVREF (power), 155 AVREFVSS (in), 158 DA0 (out), 159 DA1 (out), 160 MD0 (in), 161 MD1 (in), 162 ~{WDTOVF} (out), 163 PA0/RXD0/~{CS0} (io), 164 PA1/TXD0/~{CS1} (io), 165 PA2/SCK0/~{SCS}/~{CS2} (io), 166 PA3/RXD1/SSI/~{CS3} (io), 167 PA4/TXD1/SSO/~{CS4} (io), 168 PA5/SCK1/SSCK/~{CS5} (io), 169 PE7/TIOC2B/RXD2/~{BS}/~{UBCTRG} (io), 171 PE8/TIOC3A/SCK2 (io), 172 PE10/TIOC3C/TXD2 (io), 173 PE9/TIOC3B/~{FRAME} (io), 174 PE11/TIOC3D (io), 175 PE12/TIOC4A (io), 176 PE13/TIOC4B/~{MRES} (io)
part B pins: 89 TDI (in), 90 TDO (out), 91 TCK (in), 92 TMS (in), 93 ~{TRST} (in)
part C pins: 3 VCC (power), 22 VCC (power), 34 VCC (power), 44 VCC (power), 55 VCC (power), 66 VCC (power), 75 VCC (power), 87 VCC (power), 94 VCC (power), 101 VCC (power), 107 DrVCC (power), 114 VCC (power), 127 VCC (power), 137 AVCC (power), 148 AVCC (power), 156 AVCC (power)
part D pins: 4 VCL (power), 5 VSS (power), 23 VSS (power), 35 VSS (power), 45 VSS (power), 54 VCL (power), 56 VSS (power), 67 VSS (power), 76 VSS (power), 88 VSS (power), 95 VSS (power), 102 VSS (power), 110 DrVss (power), 112 VSS (power), 117 VSS (power), 118 PLLVSS (power), 119 VCL (power), 128 VSS (power), 136 AVSS (power), 149 AVSS (power), 157 AVSS (power), 170 VSS (power)

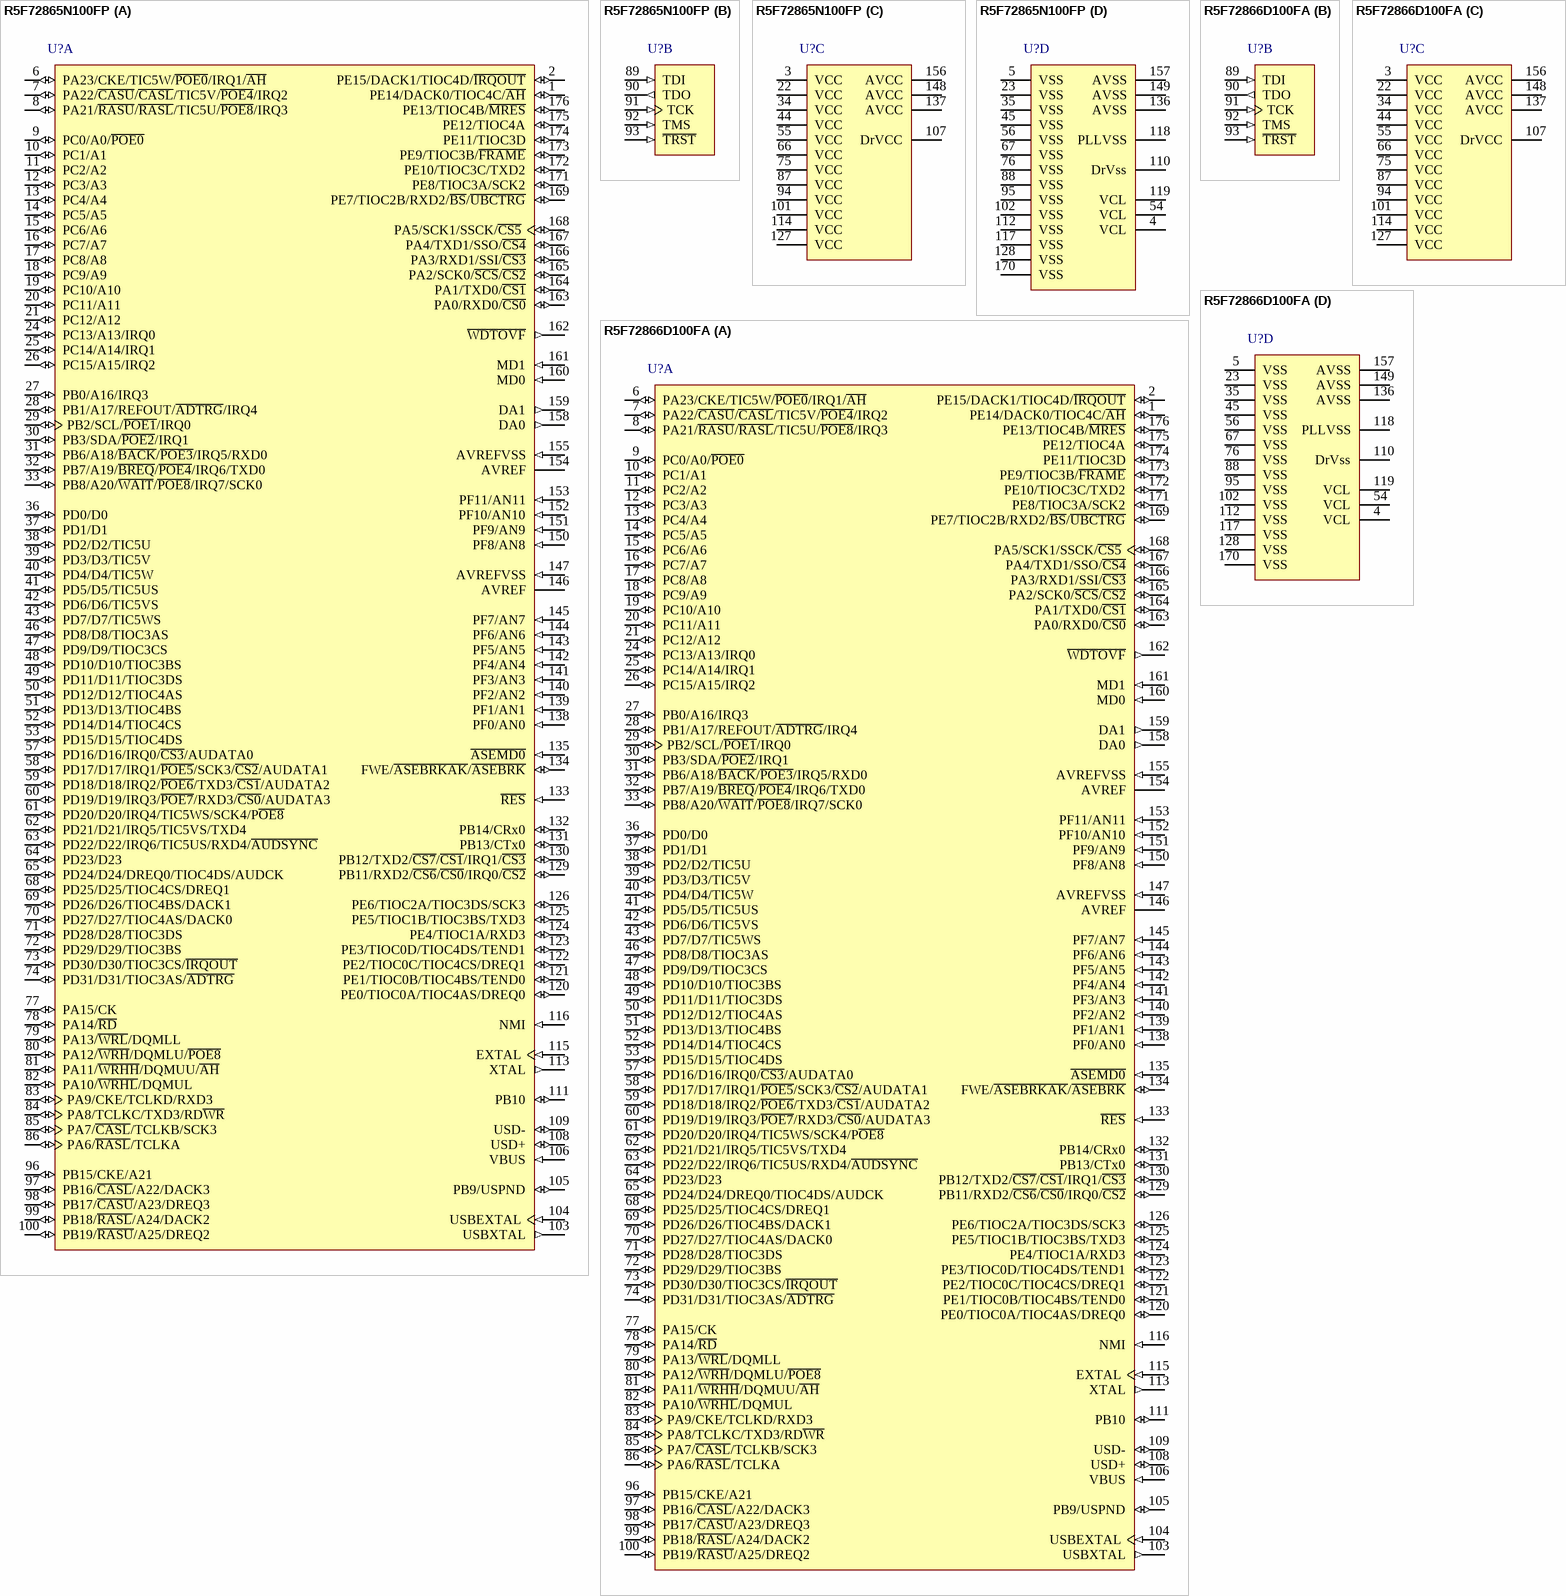
[diagram p188: symbols R5F72865N100FP to R5F72866D100FA]

## R5F72865N100FP
designator U?
32-Bit RISC Microcomputer, SH7280 Series, SH-2A core, 100MHz, 512K ROM, 24K RAM, 24x24mm 176-pin PLQFP, -20 to 85°C; Published: 28-Aug-2009; DatasheetVersion: Rev.1.00, Jun-2008; PackageVersion: Oct-2005; PackageReference: PLQP0176KB-A; Publisher: Altium Limited; PackageDescription: 176-Pin Plastic Low Profile QFP, 24 x 24 x 1.4 mm Body, 0.5 mm Pitch; Code_JEITA: P-LQFP176-24x24-0.50; ComponentLink1Description: Manufacturer Link; ComponentLink1URL: http://www.renesas.com/fmwk.jsp?cnt=sh7286_root.jsp&fp=/products/mpumcu/superh_family/sh7280_series/sh7286_group/; ComponentLink2Description: Datasheet; ComponentLink2URL: http://documentation.renesas.com/eng/products/mpumcu/rej09b0393_sh7280hm.pdf; ComponentLink3Description: Packaging Specification; ComponentLink3URL: http://sg.renesas.com/media/products/common_info/package/pdf/ic/code/plqp0176kb_a.pdf
footprint PLQP0176KB-A_N (Shrink QFP, 176-Leads, Body 24x24mm, Pitch 0.5mm, IPC Medium Density)
footprint PLQP0176KB-A_L (Shrink QFP, 176-Leads, Body 24x24mm, Pitch 0.5mm, IPC High Density)
footprint PLQP0176KB-A_M (Shrink QFP, 176-Leads, Body 24x24mm, Pitch 0.5mm, IPC Low Density)
part A pins: 1 PE14/DACK0/TIOC4C/~{AH} (io), 2 PE15/DACK1/TIOC4D/~{IRQOUT} (io), 6 PA23/CKE/TIC5W/~{POE0}/IRQ1/~{AH} (io), 7 PA22/~{CASU}/~{CASL}/TIC5V/~{POE4}/IRQ2 (io), 8 PA21/~{RASU}/~{RASL}/TIC5U/~{POE8}/IRQ3 (io), 9 PC0/A0/~{POE0} (io), 10 PC1/A1 (io), 11 PC2/A2 (io), 12 PC3/A3 (io), 13 PC4/A4 (io), 14 PC5/A5 (io), 15 PC6/A6 (io), 16 PC7/A7 (io), 17 PC8/A8 (io), 18 PC9/A9 (io), 19 PC10/A10 (io), 20 PC11/A11 (io), 21 PC12/A12 (io), 24 PC13/A13/IRQ0 (io), 25 PC14/A14/IRQ1 (io), 26 PC15/A15/IRQ2 (io), 27 PB0/A16/IRQ3 (io), 28 PB1/A17/REFOUT/~{ADTRG}/IRQ4 (io), 29 PB2/SCL/~{POE1}/IRQ0 (io), 30 PB3/SDA/~{POE2}/IRQ1 (io), 31 PB6/A18/~{BACK}/~{POE3}/IRQ5/RXD0 (io), 32 PB7/A19/~{BREQ}/~{POE4}/IRQ6/TXD0 (io), 33 PB8/A20/~{WAIT}/~{POE8}/IRQ7/SCK0 (io), 36 PD0/D0 (io), 37 PD1/D1 (io), 38 PD2/D2/TIC5U (io), 39 PD3/D3/TIC5V (io), 40 PD4/D4/TIC5W (io), 41 PD5/D5/TIC5US (io), 42 PD6/D6/TIC5VS (io), 43 PD7/D7/TIC5WS (io), 46 PD8/D8/TIOC3AS (io), 47 PD9/D9/TIOC3CS (io), 48 PD10/D10/TIOC3BS (io), 49 PD11/D11/TIOC3DS (io), 50 PD12/D12/TIOC4AS (io), 51 PD13/D13/TIOC4BS (io), 52 PD14/D14/TIOC4CS (io), 53 PD15/D15/TIOC4DS (io), 57 PD16/D16/IRQ0/~{CS3}/AUDATA0 (io), 58 PD17/D17/IRQ1/~{POE5}/SCK3/~{CS2}/AUDATA1 (io), 59 PD18/D18/IRQ2/~{POE6}/TXD3/~{CS1}/AUDATA2 (io), 60 PD19/D19/IRQ3/~{POE7}/RXD3/~{CS0}/AUDATA3 (io), 61 PD20/D20/IRQ4/TIC5WS/SCK4/P~{OE8} (io), 62 PD21/D21/IRQ5/TIC5VS/TXD4 (io), 63 PD22/D22/IRQ6/TIC5US/RXD4/~{AUDSYNC} (io), 64 PD23/D23 (io), 65 PD24/D24/DREQ0/TIOC4DS/AUDCK (io), 68 PD25/D25/TIOC4CS/DREQ1 (io), 69 PD26/D26/TIOC4BS/DACK1 (io), 70 PD27/D27/TIOC4AS/DACK0 (io), 71 PD28/D28/TIOC3DS (io), 72 PD29/D29/TIOC3BS (io), 73 PD30/D30/TIOC3CS/~{IRQOUT} (io), 74 PD31/D31/TIOC3AS/~{ADTRG} (io), 77 PA15/CK (io), 78 PA14/~{RD} (io), 79 PA13/~{WRL}/DQMLL (io), 80 PA12/~{WRH}/DQMLU/~{POE8} (io), 81 PA11/~{WRHH}/DQMUU/~{AH} (io), 82 PA10/~{WRHL}/DQMUL (io), 83 PA9/CKE/TCLKD/RXD3 (io), 84 PA8/TCLKC/TXD3/RD~{WR} (io), 85 PA7/~{CASL}/TCLKB/SCK3 (io), 86 PA6/~{RASL}/TCLKA (io), 96 PB15/CKE/A21 (io), 97 PB16/~{CASL}/A22/DACK3 (io), 98 PB17/~{CASU}/A23/DREQ3 (io), 99 PB18/~{RASL}/A24/DACK2 (io), 100 PB19/~{RASU}/A25/DREQ2 (io), 103 USBXTAL (out), 104 USBEXTAL (in), 105 PB9/USPND (io), 106 VBUS (in), 108 USD+ (io), 109 USD- (io), 111 PB10 (io), 113 XTAL (out), 115 EXTAL (in), 116 NMI (in), 120 PE0/TIOC0A/TIOC4AS/DREQ0 (io), 121 PE1/TIOC0B/TIOC4BS/TEND0 (io), 122 PE2/TIOC0C/TIOC4CS/DREQ1 (io), 123 PE3/TIOC0D/TIOC4DS/TEND1 (io), 124 PE4/TIOC1A/RXD3 (io), 125 PE5/TIOC1B/TIOC3BS/TXD3 (io), 126 PE6/TIOC2A/TIOC3DS/SCK3 (io), 129 PB11/RXD2/~{CS6}/~{CS0}/IRQ0/~{CS2} (io), 130 PB12/TXD2/~{CS7}/~{CS1}/IRQ1/~{CS3} (io), 131 PB13/CTx0 (io), 132 PB14/CRx0 (io), 133 ~{RES} (in), 134 FWE/~{ASEBRKAK}/~{ASEBRK} (io), 135 ~{ASEMD0} (in), 138 PF0/AN0 (in), 139 PF1/AN1 (in), 140 PF2/AN2 (in), 141 PF3/AN3 (in), 142 PF4/AN4 (in), 143 PF5/AN5 (in), 144 PF6/AN6 (in), 145 PF7/AN7 (in), 146 AVREF (power), 147 AVREFVSS (in), 150 PF8/AN8 (in), 151 PF9/AN9 (in), 152 PF10/AN10 (in), 153 PF11/AN11 (in), 154 AVREF (power), 155 AVREFVSS (in), 158 DA0 (out), 159 DA1 (out), 160 MD0 (in), 161 MD1 (in), 162 ~{WDTOVF} (out), 163 PA0/RXD0/~{CS0} (io), 164 PA1/TXD0/~{CS1} (io), 165 PA2/SCK0/~{SCS}/~{CS2} (io), 166 PA3/RXD1/SSI/~{CS3} (io), 167 PA4/TXD1/SSO/~{CS4} (io), 168 PA5/SCK1/SSCK/~{CS5} (io), 169 PE7/TIOC2B/RXD2/~{BS}/~{UBCTRG} (io), 171 PE8/TIOC3A/SCK2 (io), 172 PE10/TIOC3C/TXD2 (io), 173 PE9/TIOC3B/~{FRAME} (io), 174 PE11/TIOC3D (io), 175 PE12/TIOC4A (io), 176 PE13/TIOC4B/~{MRES} (io)
part B pins: 89 TDI (in), 90 TDO (out), 91 TCK (in), 92 TMS (in), 93 ~{TRST} (in)
part C pins: 3 VCC (power), 22 VCC (power), 34 VCC (power), 44 VCC (power), 55 VCC (power), 66 VCC (power), 75 VCC (power), 87 VCC (power), 94 VCC (power), 101 VCC (power), 107 DrVCC (power), 114 VCC (power), 127 VCC (power), 137 AVCC (power), 148 AVCC (power), 156 AVCC (power)
part D pins: 4 VCL (power), 5 VSS (power), 23 VSS (power), 35 VSS (power), 45 VSS (power), 54 VCL (power), 56 VSS (power), 67 VSS (power), 76 VSS (power), 88 VSS (power), 95 VSS (power), 102 VSS (power), 110 DrVss (power), 112 VSS (power), 117 VSS (power), 118 PLLVSS (power), 119 VCL (power), 128 VSS (power), 136 AVSS (power), 149 AVSS (power), 157 AVSS (power), 170 VSS (power)